# Altium integrated library Actel Axcelerator.IntLib: 162 symbols (part 32 of 43)
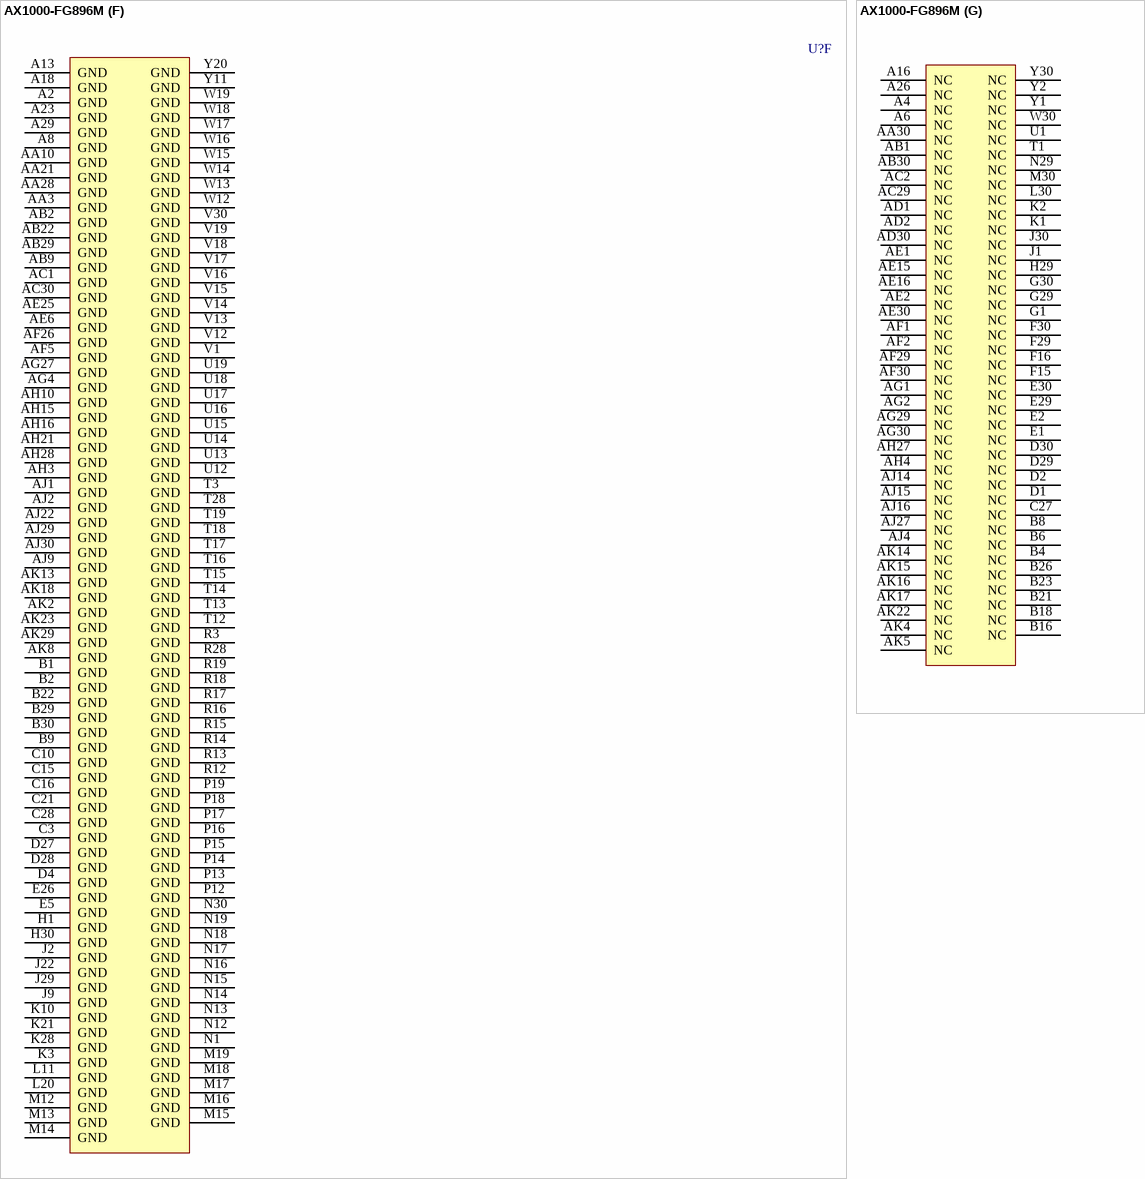
[diagram p430: symbol AX1000-FG896M]

## AX1000-FG896M
designator U?
Axcelerator AX1000 FPGA, 516 User I/Os, 896-Pin FBGA, Standard Speed Grade, Military Grade; Published: 11-Dec-2009; DatasheetVersion: v2.8, Oct-2009; PackageVersion: ver11.2, Nov-2009; PackageReference: FG896; Publisher: Altium Limited; PackageDescription: 896-Ball Fine Pitch Plastic Ball Grid Array (FG896); Code_JEDEC: MS-034-AAN-1; ComponentLink1Description: Axcelerator Datasheet; ComponentLink1URL: http://www.actel.com/documents/AX_DS.pdf; ComponentLink2Description: Package Mechanical Drawings; ComponentLink2URL: http://www.actel.com/documents/PckgMechDrwngs.pdf; ComponentLink3Description: Axcelerator Documents; ComponentLink3URL: http://www.actel.com/products/axcelerator/docs.aspx; ComponentLink4Description: Actel.com Home; ComponentLink4URL: http://www.actel.com/
footprint FG896 (BGA, 896-Leads, Body 31x31mm, Pitch 1mm)
part A pins: A5 IO01NB0F0 (io), A7 IO09NB0F0 (io), A9 IO15PB0F1 (io), A10 IO15NB0F1 (io), A11 IO23PB0F2 (io), A12 IO23NB0F2 (io), A14 IO27PB0F2 (io), A15 IO29PB0F2 (io), A17 IO34NB1F3 (io), A19 IO37PB1F3 (io), A20 IO39PB1F3 (io), A21 IO43PB1F4 (io), A22 IO43NB1F4 (io), A24 IO47PB1F4 (io), A25 IO47NB1F4 (io), A27 IO61PB1F5 (io), B5 IO01PB0F0 (io), B7 IO09PB0F0 (io), B10 IO17PB0F1 (io), B11 IO17NB0F1 (io), B12 IO25PB0F2 (io), B13 IO25NB0F2 (io), B14 IO27NB0F2 (io), B15 IO29NB0F2 (io), B17 IO34PB1F3 (io), B19 IO37NB1F3 (io), B20 IO39NB1F3 (io), B24 IO53PB1F4 (io), B25 IO53NB1F4 (io), B27 IO61NB1F5 (io), C6 IO05PB0F0 (io), C7 IO05NB0F0 (io), C8 IO11PB0F0 (io), C9 IO11NB0F0 (io), C11 IO19PB0F1 (io), C12 IO19NB0F1 (io), C14 IO30NB0F2/HCLKAN (io), C17 IO33NB1F3/HCLKDN (io), C18 IO35PB1F3 (io), C19 IO40PB1F3 (io), C20 IO40NB1F3 (io), C22 IO46PB1F4 (io), C23 IO49PB1F4 (io), C24 IO49NB1F4 (io), C25 IO57PB1F5 (io), C26 IO59PB1F5 (io), D6 IO00NB0F0 (io), D7 IO04NB0F0 (io), D8 IO07NB0F0 (io), D9 IO13PB0F1 (io), D10 IO13NB0F1 (io), D11 IO18NB0F1 (io), D12 IO21NB0F1 (io), D14 IO30PB0F2/HCLKAP (io), D15 IO31PB0F2/HCLKBP (io), D17 IO33PB1F3/HCLKDP (io), D18 IO35NB1F3 (io), D20 IO45PB1F4 (io), D21 IO45NB1F4 (io), D22 IO46NB1F4 (io), D23 IO54PB1F5 (io), D24 IO54NB1F5 (io), D25 IO57NB1F5 (io), D26 IO59NB1F5 (io), E6 IO00PB0F0 (io), E7 IO04PB0F0 (io), E8 IO07PB0F0 (io), E9 IO08NB0F0 (io), E10 IO12NB0F1 (io), E11 IO18PB0F1 (io), E12 IO21PB0F1 (io), E13 IO26PB0F2 (io), E14 IO26NB0F2 (io), E15 IO31NB0F2/HCLKBN (io), E16 IO32PB1F3/HCLKCP (io), E17 IO32NB1F3/HCLKCN (io), E19 IO41PB1F4 (io), E20 IO41NB1F4 (io), E21 IO51PB1F4 (io), E22 IO52PB1F4 (io), E23 IO55PB1F5 (io), E24 IO58PB1F5 (io), E25 IO62PB1F5 (io), F7 IO03PB0F0 (io), F8 IO03NB0F0 (io), F9 IO08PB0F0 (io), F10 IO12PB0F1 (io), F11 IO14NB0F1 (io), F12 IO20NB0F1 (io), F13 IO24NB0F2 (io), F18 IO42NB1F4 (io), F19 IO44PB1F4 (io), F20 IO44NB1F4 (io), F21 IO51NB1F4 (io), F22 IO52NB1F4 (io), F23 IO55NB1F5 (io), F24 IO58NB1F5 (io), F25 IO62NB1F5 (io), G8 IO02PB0F0 (io), G9 IO02NB0F0 (io), G10 IO10PB0F0 (io), G11 IO14PB0F1 (io), G12 IO20PB0F1 (io), G13 IO24PB0F2 (io), G18 IO42PB1F4 (io), G19 IO48PB1F4 (io), G20 IO50NB1F4 (io), G21 IO56PB1F5 (io), G22 IO60PB1F5 (io), G23 IO60NB1F5 (io), H8 IO06PB0F0 (io), H9 IO06NB0F0 (io), H10 IO10NB0F0 (io), H11 IO16PB0F1 (io), H12 IO16NB0F1 (io), H13 IO22NB0F2 (io), H14 IO28NB0F2 (io), H17 IO36NB1F3 (io), H18 IO38NB1F3 (io), H19 IO48NB1F4 (io), H20 IO50PB1F4 (io), H21 IO56NB1F5 (io), H22 IO63PB1F5 (io), H23 IO63NB1F5 (io), J13 IO22PB0F2 (io), J14 IO28PB0F2 (io), J17 IO36PB1F3 (io), J18 IO38PB1F3 (io)
part B pins: AA23 IO124PB3F11 (io), AA24 IO120NB3F11 (io), AA25 IO121PB3F11 (io), AA26 IO115NB3F10 (io), AA27 IO113PB3F10 (io), AA29 IO111NB3F10 (io), AB23 IO124NB3F11 (io), AB24 IO128PB3F11 (io), AB25 IO121NB3F11 (io), AB26 IO122PB3F11 (io), AB27 IO113NB3F10 (io), AB28 IO116PB3F10 (io), AC24 IO128NB3F11 (io), AC25 IO126PB3F11 (io), AC26 IO122NB3F11 (io), AC27 IO119PB3F11 (io), AC28 IO116NB3F10 (io), AD25 IO126NB3F11 (io), AD26 IO127PB3F11 (io), AD27 IO119NB3F11 (io), AD28 IO118PB3F11 (io), AD29 IO117PB3F10 (io), AE26 IO127NB3F11 (io), AE27 IO125PB3F11 (io), AE28 IO118NB3F11 (io), AE29 IO117NB3F10 (io), AF27 IO125NB3F11 (io), AF28 IO123PB3F11 (io), AG28 IO123NB3F11 (io), E27 IO69PB2F6 (io), F27 IO69NB2F6 (io), F28 IO73PB2F6 (io), G25 IO67PB2F6 (io), G26 IO67NB2F6 (io), G27 IO71PB2F6 (io), G28 IO73NB2F6 (io), H24 IO65PB2F6 (io), H25 IO66PB2F6 (io), H26 IO66NB2F6 (io), H27 IO71NB2F6 (io), H28 IO72PB2F6 (io), J23 IO64PB2F6 (io), J24 IO65NB2F6 (io), J25 IO70PB2F6 (io), J26 IO70NB2F6 (io), J27 IO77PB2F7 (io), J28 IO72NB2F6 (io), K23 IO64NB2F6 (io), K24 IO68PB2F6 (io), K25 IO68NB2F6 (io), K26 IO75PB2F7 (io), K27 IO77NB2F7 (io), K29 IO79PB2F7 (io), K30 IO79NB2F7 (io), L23 IO74NB2F7 (io), L24 IO74PB2F7 (io), L25 IO76PB2F7 (io), L26 IO75NB2F7 (io), L27 IO78PB2F7 (io), L28 IO81PB2F7 (io), L29 IO85PB2F8 (io), M23 IO80NB2F7 (io), M24 IO80PB2F7 (io), M25 IO76NB2F7 (io), M26 IO82PB2F7 (io), M27 IO78NB2F7 (io), M28 IO81NB2F7 (io), M29 IO85NB2F8 (io), N22 IO84NB2F7 (io), N23 IO84PB2F7 (io), N24 IO83PB2F7 (io), N25 IO83NB2F7 (io), N26 IO82NB2F7 (io), N27 IO86PB2F8 (io), N28 IO86NB2F8 (io), P22 IO90NB2F8 (io), P23 IO90PB2F8 (io), P24 IO88PB2F8 (io), P25 IO88NB2F8 (io), P26 IO91PB2F8 (io), P27 IO89PB2F8 (io), P28 IO89NB2F8 (io), P29 IO87NB2F8 (io), P30 IO87PB2F8 (io), R22 IO94NB2F8 (io), R23 IO94PB2F8 (io), R24 IO92NB2F8 (io), R25 IO92PB2F8 (io), R26 IO91NB2F8 (io), R27 IO95PB2F8 (io), R29 IO93NB2F8 (io), R30 IO93PB2F8 (io), T22 IO98NB3F9 (io), T23 IO98PB3F9 (io), T24 IO100PB3F9 (io), T26 IO99PB3F9 (io), T27 IO95NB2F8 (io), T29 IO96NB3F9 (io), T30 IO96PB3F9 (io), U22 IO102PB3F9 (io), U23 IO102NB3F9 (io), U24 IO100NB3F9 (io), U25 IO106PB3F9 (io), U26 IO99NB3F9 (io), U27 IO103PB3F9 (io), U28 IO101PB3F9 (io), U29 IO97NB3F9 (io), U30 IO97PB3F9 (io), V22 IO110PB3F10 (io), V23 IO110NB3F10 (io), V24 IO108PB3F10 (io), V25 IO106NB3F9 (io), V26 IO107PB3F10 (io), V27 IO103NB3F9 (io), V28 IO101NB3F9 (io), V29 IO104PB3F9 (io), W23 IO114PB3F10 (io), W24 IO108NB3F10 (io), W25 IO112PB3F10 (io), W26 IO107NB3F10 (io), W27 IO109PB3F10 (io), W28 IO105PB3F9 (io), W29 IO104NB3F9 (io), Y23 IO114NB3F10 (io), Y24 IO120PB3F11 (io), Y25 IO112NB3F10 (io), Y26 IO115PB3F10 (io), Y27 IO109NB3F10 (io), Y28 IO105NB3F9 (io), Y29 IO111PB3F10 (io)
part C pins: AB13 IO167NB5F15 (io), AB14 IO165NB5F15 (io), AB17 IO155PB4F14 (io), AB18 IO149PB4F13 (io), AC8 IO192NB5F17 (io), AC9 IO192PB5F17 (io), AC10 IO185NB5F17 (io), AC11 IO181NB5F17 (io), AC12 IO177NB5F16 (io), AC13 IO169PB5F15 (io), AC14 IO167PB5F15 (io), AC15 IO165PB5F15 (io), AC17 IO155NB4F14 (io), AC18 IO149NB4F13 (io), AC19 IO147NB4F13 (io), AC20 IO147PB4F13 (io), AC21 IO137PB4F12 (io), AC22 IO133PB4F12 (io), AC23 IO129PB4F12 (io), AD8 IO189NB5F17 (io), AD9 IO189PB5F17 (io), AD10 IO185PB5F17 (io), AD11 IO181PB5F17 (io), AD12 IO177PB5F16 (io), AD13 IO169NB5F15 (io), AD14 IO163PB5F15 (io), AD17 IO157PB4F14 (io), AD18 IO151PB4F13 (io), AD19 IO143NB4F13 (io), AD20 IO143PB4F13 (io), AD21 IO137NB4F12 (io), AD22 IO133NB4F12 (io), AD23 IO129NB4F12 (io), AE7 IO187NB5F17 (io), AE8 IO187PB5F17 (io), AE9 IO180NB5F16 (io), AE10 IO180PB5F16 (io), AE11 IO175NB5F16 (io), AE12 IO173NB5F16 (io), AE13 IO173PB5F16 (io), AE14 IO163NB5F15 (io), AE17 IO157NB4F14 (io), AE18 IO151NB4F13 (io), AE19 IO145NB4F13 (io), AE20 IO145PB4F13 (io), AE21 IO139NB4F13 (io), AE22 IO139PB4F13 (io), AE23 IO134NB4F12 (io), AE24 IO134PB4F12 (io), AF6 IO188NB5F17 (io), AF7 IO188PB5F17 (io), AF8 IO183NB5F17 (io), AF9 IO179NB5F16 (io), AF10 IO179PB5F16 (io), AF11 IO175PB5F16 (io), AF20 IO146NB4F13 (io), AF21 IO146PB4F13 (io), AF22 IO141NB4F13 (io), AF23 IO141PB4F13 (io), AF24 IO131NB4F12 (io), AF25 IO131PB4F12 (io), AG5 IO191NB5F17 (io), AG6 IO190PB5F17 (io), AG7 IO184NB5F17 (io), AG8 IO183PB5F17 (io), AG9 IO174NB5F16 (io), AG10 IO174PB5F16 (io), AG11 IO171NB5F16 (io), AG12 IO171PB5F16 (io), AG13 IO162NB5F15/CLKHN (io), AG14 IO161NB5F15/CLKGN (io), AG15 IO161PB5F15/CLKGP (io), AG16 IO160NB4F14/CLKFN (io), AG17 IO160PB4F14/CLKFP (io), AG18 IO159NB4F14/CLKEN (io), AG19 IO153NB4F14 (io), AG20 IO153PB4F14 (io), AG21 IO144NB4F13 (io), AG22 IO144PB4F13 (io), AG23 IO140NB4F13 (io), AG24 IO140PB4F13 (io), AG25 IO132NB4F12 (io), AG26 IO132PB4F12 (io), AH5 IO191PB5F17 (io), AH6 IO190NB5F17 (io), AH7 IO184PB5F17 (io), AH8 IO176NB5F16 (io), AH9 IO176PB5F16 (io), AH11 IO168NB5F15 (io), AH12 IO168PB5F15 (io), AH13 IO162PB5F15/CLKHP (io), AH18 IO159PB4F14/CLKEP (io), AH19 IO154NB4F14 (io), AH20 IO154PB4F14 (io), AH22 IO148NB4F13 (io), AH23 IO148PB4F13 (io), AH24 IO135NB4F12 (io), AH25 IO135PB4F12 (io), AJ5 IO186NB5F17 (io), AJ6 IO186PB5F17 (io), AJ7 IO178NB5F16 (io), AJ8 IO178PB5F16 (io), AJ10 IO170NB5F15 (io), AJ11 IO170PB5F15 (io), AJ12 IO164NB5F15 (io), AJ13 IO164PB5F15 (io), AJ17 IO158NB4F14 (io), AJ18 IO158PB4F14 (io), AJ19 IO156PB4F14 (io), AJ20 IO152NB4F14 (io), AJ21 IO150PB4F13 (io), AJ23 IO142NB4F13 (io), AJ24 IO142PB4F13 (io), AJ25 IO136NB4F12 (io), AJ26 IO136PB4F12 (io), AK6 IO182NB5F17 (io), AK7 IO182PB5F17 (io), AK9 IO172NB5F16 (io), AK10 IO172PB5F16 (io), AK11 IO166NB5F15 (io), AK12 IO166PB5F15 (io), AK19 IO156NB4F14 (io), AK20 IO152PB4F14 (io), AK21 IO150NB4F13 (io), AK24 IO138NB4F12 (io), AK25 IO138PB4F12 (io), AK26 IO130NB4F12 (io), AK27 IO130PB4F12 (io)
part D pins: AA1 IO210PB6F19 (io), AA2 IO210NB6F19 (io), AA4 IO206NB6F19 (io), AA5 IO204PB6F19 (io), AA6 IO203PB6F19 (io), AA7 IO201PB6F18 (io), AA8 IO197NB6F18 (io), AB3 IO208NB6F19 (io), AB4 IO206PB6F19 (io), AB5 IO200NB6F18 (io), AB6 IO195NB6F18 (io), AB7 IO193NB6F18 (io), AB8 IO197PB6F18 (io), AC3 IO208PB6F19 (io), AC4 IO199NB6F18 (io), AC5 IO200PB6F18 (io), AC6 IO195PB6F18 (io), AC7 IO193PB6F18 (io), AD3 IO202NB6F18 (io), AD4 IO199PB6F18 (io), AD5 IO194NB6F18 (io), AE3 IO202PB6F18 (io), AE4 IO196NB6F18 (io), AE5 IO194PB6F18 (io), AF3 IO198NB6F18 (io), AF4 IO196PB6F18 (io), AG3 IO198PB6F18 (io), F1 IO252PB7F23 (io), F2 IO252NB7F23 (io), F3 IO254PB7F23 (io), F4 IO254NB7F23 (io), F5 IO256NB7F23 (io), G2 IO246NB7F22 (io), G3 IO248NB7F23 (io), G4 IO249NB7F23 (io), G5 IO256PB7F23 (io), G6 IO255NB7F23 (io), H2 IO246PB7F22 (io), H3 IO248PB7F23 (io), H4 IO249PB7F23 (io), H5 IO251NB7F23 (io), H6 IO255PB7F23 (io), H7 IO257NB7F23 (io), J3 IO245PB7F22 (io), J4 IO245NB7F22 (io), J5 IO251PB7F23 (io), J6 IO250NB7F23 (io), J7 IO257PB7F23 (io), K4 IO242NB7F22 (io), K5 IO244NB7F22 (io), K6 IO250PB7F23 (io), K7 IO253PB7F23 (io), K8 IO253NB7F23 (io), L1 IO234NB7F21 (io), L2 IO239NB7F22 (io), L3 IO240NB7F22 (io), L4 IO242PB7F22 (io), L5 IO244PB7F22 (io), L6 IO243NB7F22 (io), L7 IO247PB7F23 (io), L8 IO247NB7F23 (io), M1 IO234PB7F21 (io), M2 IO239PB7F22 (io), M3 IO240PB7F22 (io), M4 IO235NB7F21 (io), M5 IO238NB7F22 (io), M6 IO243PB7F22 (io), M7 IO241PB7F22 (io), M8 IO241NB7F22 (io), N2 IO230NB7F21 (io), N3 IO232NB7F21 (io), N4 IO235PB7F21 (io), N5 IO238PB7F22 (io), N6 IO236PB7F22 (io), N7 IO236NB7F22 (io), N8 IO237NB7F22 (io), N9 IO237PB7F22 (io), P1 IO228NB7F21 (io), P2 IO230PB7F21 (io), P3 IO232PB7F21 (io), P4 IO233NB7F21 (io), P5 IO233PB7F21 (io), P6 IO231PB7F21 (io), P7 IO231NB7F21 (io), P8 IO229PB7F21 (io), P9 IO229NB7F21 (io), R1 IO228PB7F21 (io), R2 IO224NB6F20 (io), R4 IO226NB7F21 (io), R5 IO226PB7F21 (io), R6 IO225PB7F21 (io), R7 IO225NB7F21 (io), R8 IO227NB7F21 (io), R9 IO227PB7F21 (io), T2 IO224PB6F20 (io), T5 IO219NB6F20 (io), T6 IO223PB6F20 (io), T7 IO223NB6F20 (io), T8 IO221NB6F20 (io), T9 IO221PB6F20 (io), U2 IO222NB6F20 (io), U3 IO220NB6F20 (io), U4 IO218NB6F20 (io), U5 IO219PB6F20 (io), U6 IO217PB6F20 (io), U7 IO217NB6F20 (io), U8 IO215NB6F20 (io), U9 IO215PB6F20 (io), V2 IO222PB6F20 (io), V3 IO220PB6F20 (io), V4 IO218PB6F20 (io), V5 IO211NB6F19 (io), V6 IO213PB6F19 (io), V7 IO213NB6F19 (io), V8 IO209NB6F19 (io), V9 IO209PB6F19 (io), W1 IO216NB6F20 (io), W2 IO216PB6F20 (io), W3 IO214NB6F20 (io), W4 IO214PB6F20 (io), W5 IO211PB6F19 (io), W6 IO207NB6F19 (io), W7 IO207PB6F19 (io), W8 IO205NB6F19 (io), Y3 IO212NB6F19 (io), Y4 IO212PB6F19 (io), Y5 IO204NB6F19 (io), Y6 IO203NB6F19 (io), Y7 IO201NB6F18 (io), Y8 IO205PB6F19 (io)
part E pins: A3 VCCIB0 (power), A28 VCCIB1 (power), AA9 VCCIB6 (power), AA11 VCCIB5 (power), AA12 VCCIB5 (power), AA13 VCCIB5 (power), AA14 VCCIB5 (power), AA15 VCCIB5 (power), AA16 VCCIB4 (power), AA17 VCCIB4 (power), AA18 VCCIB4 (power), AA19 VCCIB4 (power), AA20 VCCIB4 (power), AA22 VCCIB3 (power), AB10 VCCIB5 (power), AB11 VCCIB5 (power), AB12 VCCIB5 (power), AB15 VCOMPLH (power), AB16 PRC (out), AB19 VCCIB4 (power), AB20 VCCIB4 (power), AB21 VCCIB4 (power), AC16 VCCPLF (power), AD6 VCCA (power), AD7 VCCDA (power), AD15 VCCPLH (power), AD16 VCOMPLF (power), AD24 VCCDA (power), AF12 VCCDA (power), AF13 VCCDA (power), AF14 VCOMPLG (power), AF15 VCCDA (power), AF16 PRD (out), AF17 VCOMPLE (power), AF18 VCCDA (power), AF19 VCCDA (power), AH1 VCCIB6 (power), AH2 VCCIB6 (power), AH14 VCCPLG (power), AH17 VCCPLE (power), AH26 VCCA (power), AH29 VCCIB3 (power), AH30 VCCIB3 (power), AJ3 VCCIB5 (power), AJ28 VCCIB4 (power), AK3 VCCIB5 (power), AK28 VCCIB4 (power), B3 VCCIB0 (power), B28 VCCIB1 (power), C1 VCCIB7 (power), C2 VCCIB7 (power), C4 ~{TRST} (in), C5 VCCDA (power), C13 VCCDA (power), C29 VCCIB2 (power), C30 VCCIB2 (power), D3 VCCDA (power), D5 TDI (in), D13 VCCDA (power), D16 PRB (out), D19 VCCDA (power), E3 VCCA (power), E4 LP (in), E18 VCCDA (power), E28 VCCA (power), F6 TMS (in), F14 VCOMPLA (power), F17 VCOMPLC (power), F26 VCCDA (power), G7 TCK (in), G14 VCCPLA (power), G15 PRA (out), G16 VCCDA (power), G17 VCCPLC (power), G24 VPUMP (power), H15 VCCPLB (power), H16 VCOMPLD (power), J8 TDO (hiz), J10 VCCIB0 (power), J11 VCCIB0 (power), J12 VCCIB0 (power), J15 VCOMPLB (power), J16 VCCPLD (power), J19 VCCIB1 (power), J20 VCCIB1 (power), J21 VCCIB1 (power), K9 VCCIB7 (power), K11 VCCIB0 (power), K12 VCCIB0 (power), K13 VCCIB0 (power), K14 VCCIB0 (power), K15 VCCIB0 (power), K16 VCCIB1 (power), K17 VCCIB1 (power), K18 VCCIB1 (power), K19 VCCIB1 (power), K20 VCCIB1 (power), K22 VCCIB2 (power), L9 VCCIB7 (power), L10 VCCIB7 (power), L12 VCCA (power), L13 VCCA (power), L14 VCCA (power), L15 VCCA (power), L16 VCCA (power), L17 VCCA (power), L18 VCCA (power), L19 VCCA (power), L21 VCCIB2 (power), L22 VCCIB2 (power), M9 VCCIB7 (power), M10 VCCIB7 (power), M11 VCCA (power), M20 VCCA (power), M21 VCCIB2 (power), M22 VCCIB2 (power), N10 VCCIB7 (power), N11 VCCA (power), N20 VCCA (power), N21 VCCIB2 (power), P10 VCCIB7 (power), P11 VCCA (power), P20 VCCA (power), P21 VCCIB2 (power), R10 VCCIB7 (power), R11 VCCA (power), R20 VCCA (power), R21 VCCIB2 (power), T4 VCCDA (power), T10 VCCIB6 (power), T11 VCCA (power), T20 VCCA (power), T21 VCCIB3 (power), T25 VCCDA (power), U10 VCCIB6 (power), U11 VCCA (power), U20 VCCA (power), U21 VCCIB3 (power), V10 VCCIB6 (power), V11 VCCA (power), V20 VCCA (power), V21 VCCIB3 (power), W9 VCCIB6 (power), W10 VCCIB6 (power), W11 VCCA (power), W20 VCCA (power), W21 VCCIB3 (power), W22 VCCIB3 (power), Y9 VCCIB6 (power), Y10 VCCIB6 (power), Y12 VCCA (power), Y13 VCCA (power), Y14 VCCA (power), Y15 VCCA (power), Y16 VCCA (power), Y17 VCCA (power), Y18 VCCA (power), Y19 VCCA (power), Y21 VCCIB3 (power), Y22 VCCIB3 (power)
part F pins: A2 GND (power), A8 GND (power), A13 GND (power), A18 GND (power), A23 GND (power), A29 GND (power), AA3 GND (power), AA10 GND (power), AA21 GND (power), AA28 GND (power), AB2 GND (power), AB9 GND (power), AB22 GND (power), AB29 GND (power), AC1 GND (power), AC30 GND (power), AE6 GND (power), AE25 GND (power), AF5 GND (power), AF26 GND (power), AG4 GND (power), AG27 GND (power), AH3 GND (power), AH10 GND (power), AH15 GND (power), AH16 GND (power), AH21 GND (power), AH28 GND (power), AJ1 GND (power), AJ2 GND (power), AJ9 GND (power), AJ22 GND (power), AJ29 GND (power), AJ30 GND (power), AK2 GND (power), AK8 GND (power), AK13 GND (power), AK18 GND (power), AK23 GND (power), AK29 GND (power), B1 GND (power), B2 GND (power), B9 GND (power), B22 GND (power), B29 GND (power), B30 GND (power), C3 GND (power), C10 GND (power), C15 GND (power), C16 GND (power), C21 GND (power), C28 GND (power), D4 GND (power), D27 GND (power), D28 GND (power), E5 GND (power), E26 GND (power), H1 GND (power), H30 GND (power), J2 GND (power), J9 GND (power), J22 GND (power), J29 GND (power), K3 GND (power), K10 GND (power), K21 GND (power), K28 GND (power), L11 GND (power), L20 GND (power), M12 GND (power), M13 GND (power), M14 GND (power), M15 GND (power), M16 GND (power), M17 GND (power), M18 GND (power), M19 GND (power), N1 GND (power), N12 GND (power), N13 GND (power), N14 GND (power), N15 GND (power), N16 GND (power), N17 GND (power), N18 GND (power), N19 GND (power), N30 GND (power), P12 GND (power), P13 GND (power), P14 GND (power), P15 GND (power), P16 GND (power), P17 GND (power), P18 GND (power), P19 GND (power), R3 GND (power), R12 GND (power), R13 GND (power), R14 GND (power), R15 GND (power), R16 GND (power), R17 GND (power), R18 GND (power), R19 GND (power), R28 GND (power), T3 GND (power), T12 GND (power), T13 GND (power), T14 GND (power), T15 GND (power), T16 GND (power), T17 GND (power), T18 GND (power), T19 GND (power), T28 GND (power), U12 GND (power), U13 GND (power), U14 GND (power), U15 GND (power), U16 GND (power), U17 GND (power), U18 GND (power), U19 GND (power), V1 GND (power), V12 GND (power), V13 GND (power), V14 GND (power), V15 GND (power), V16 GND (power), V17 GND (power), V18 GND (power), V19 GND (power), V30 GND (power), W12 GND (power), W13 GND (power), W14 GND (power), W15 GND (power), W16 GND (power), W17 GND (power), W18 GND (power), W19 GND (power), Y11 GND (power), Y20 GND (power)
part G pins: A4 NC, A6 NC, A16 NC, A26 NC, AA30 NC, AB1 NC, AB30 NC, AC2 NC, AC29 NC, AD1 NC, AD2 NC, AD30 NC, AE1 NC, AE2 NC, AE15 NC, AE16 NC, AE30 NC, AF1 NC, AF2 NC, AF29 NC, AF30 NC, AG1 NC, AG2 NC, AG29 NC, AG30 NC, AH4 NC, AH27 NC, AJ4 NC, AJ14 NC, AJ15 NC, AJ16 NC, AJ27 NC, AK4 NC, AK5 NC, AK14 NC, AK15 NC, AK16 NC, AK17 NC, AK22 NC, B4 NC, B6 NC, B8 NC, B16 NC, B18 NC, B21 NC, B23 NC, B26 NC, C27 NC, D1 NC, D2 NC, D29 NC, D30 NC, E1 NC, E2 NC, E29 NC, E30 NC, F15 NC, F16 NC, F29 NC, F30 NC, G1 NC, G29 NC, G30 NC, H29 NC, J1 NC, J30 NC, K1 NC, K2 NC, L30 NC, M30 NC, N29 NC, T1 NC, U1 NC, W30 NC, Y1 NC, Y2 NC, Y30 NC
part A text: Bank 1; Bank 0
part B text: Bank 3; Bank 2
part C text: Bank 5; Bank 4
part D text: Bank 7; Bank 6

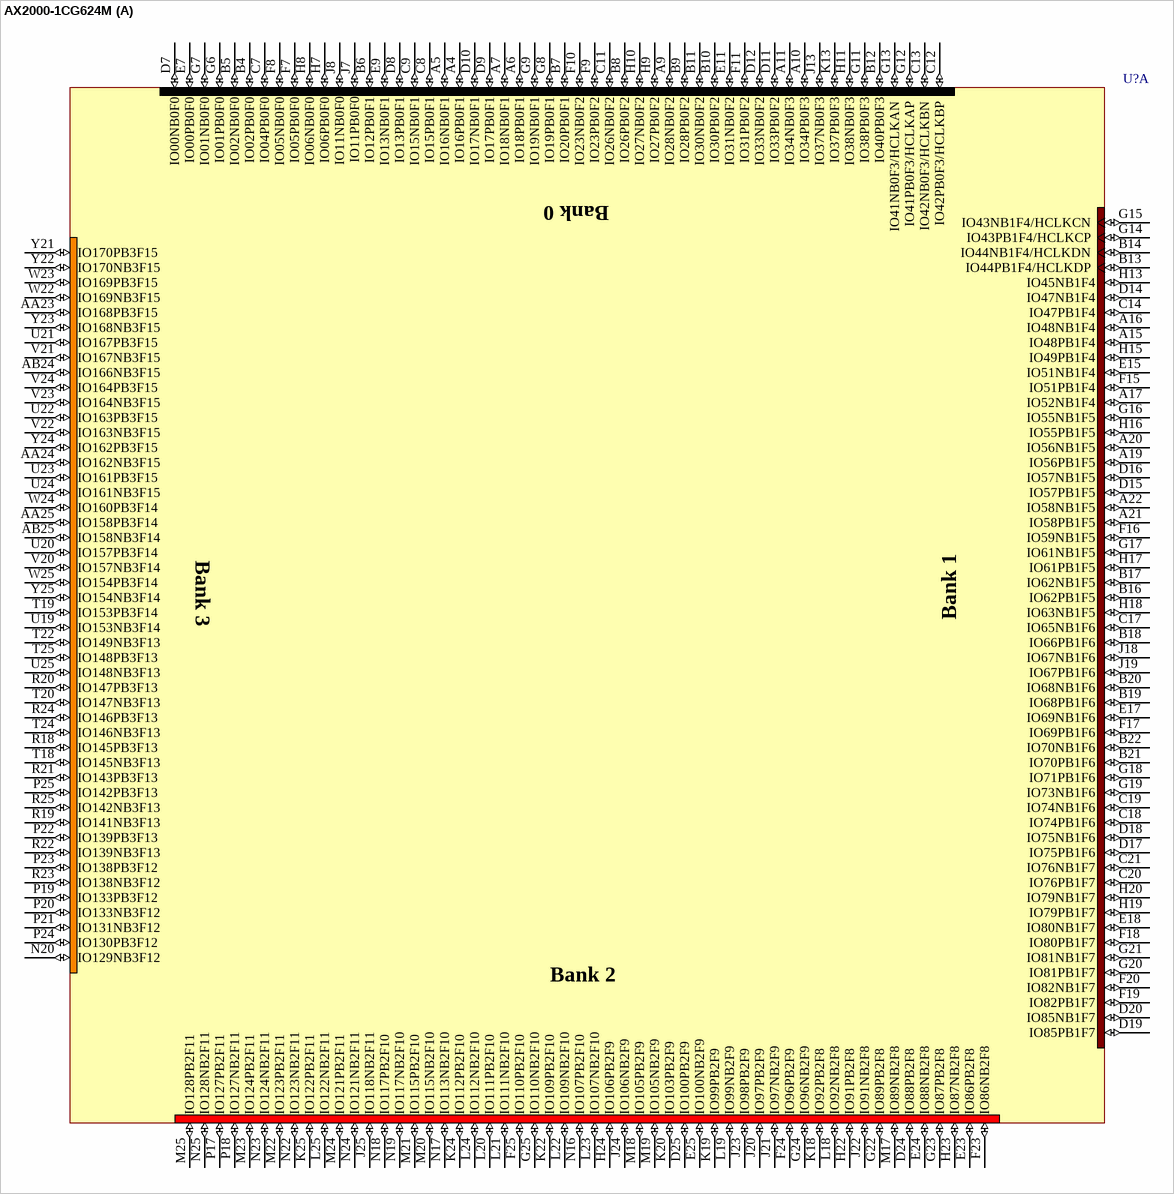
[diagram p361: symbol AX2000-1CG624M]

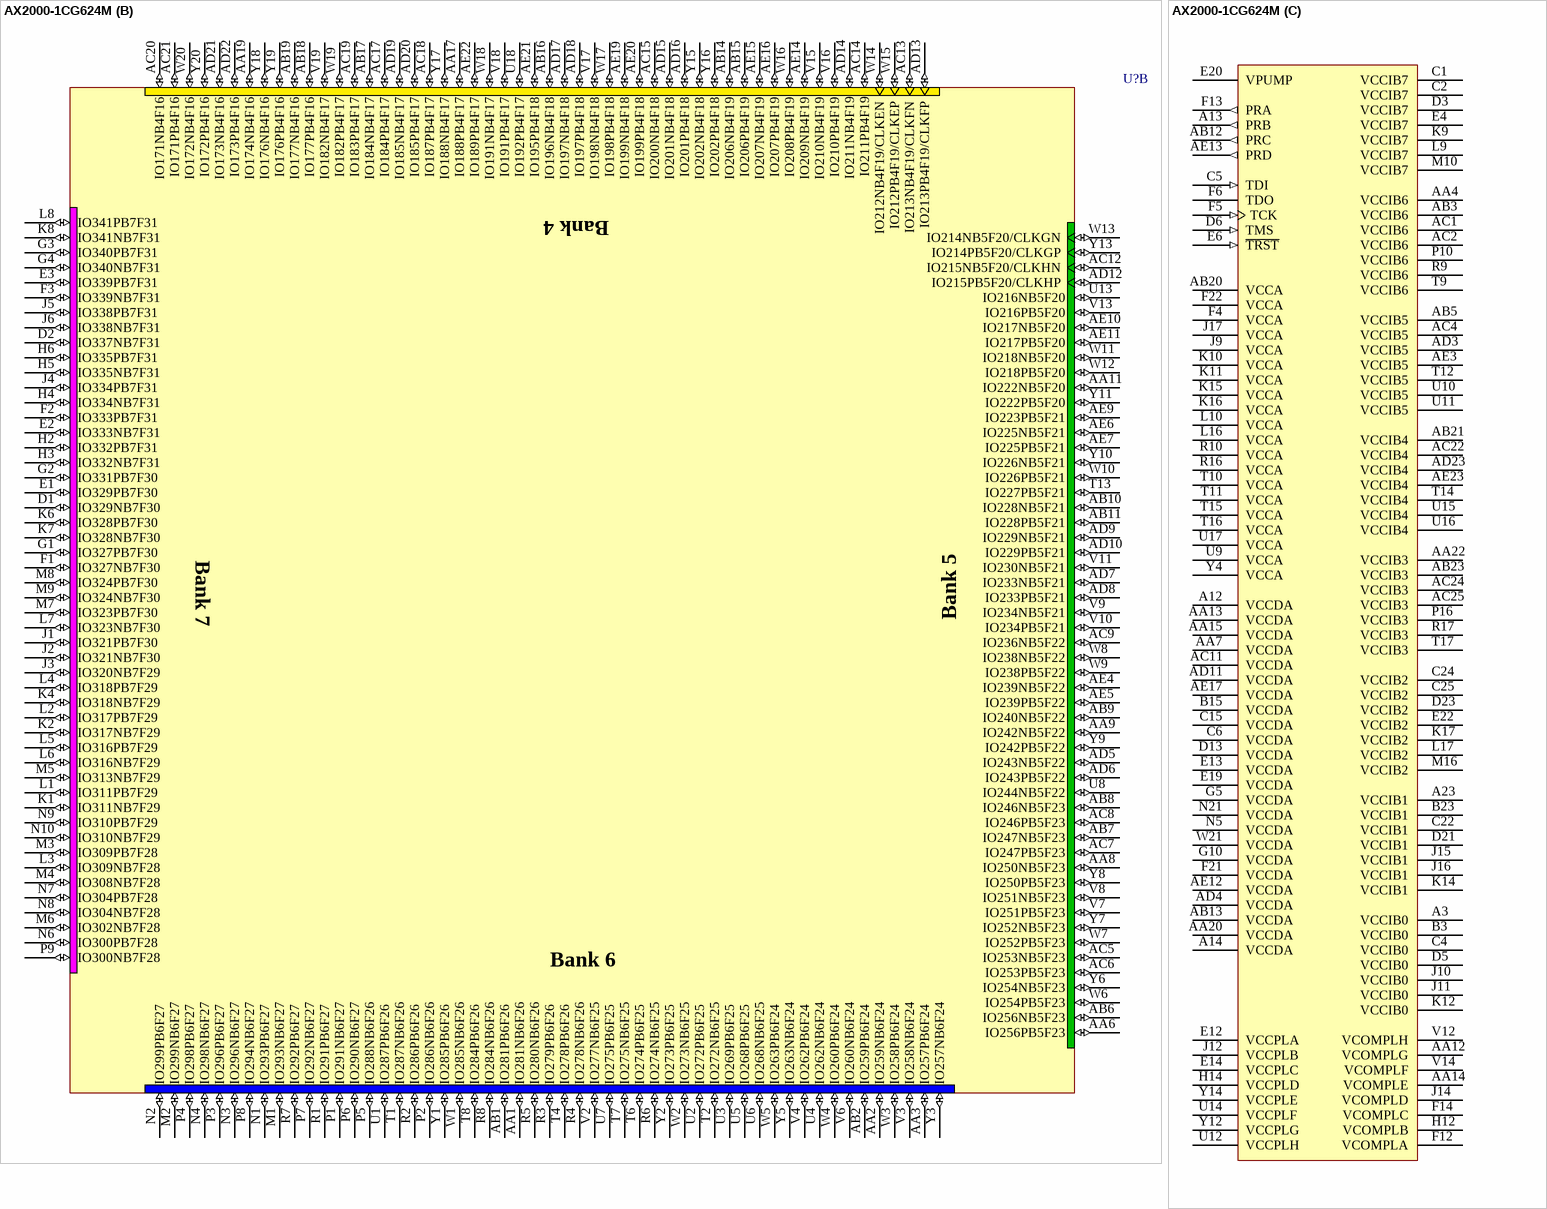
[diagram p362: symbol AX2000-1CG624M]

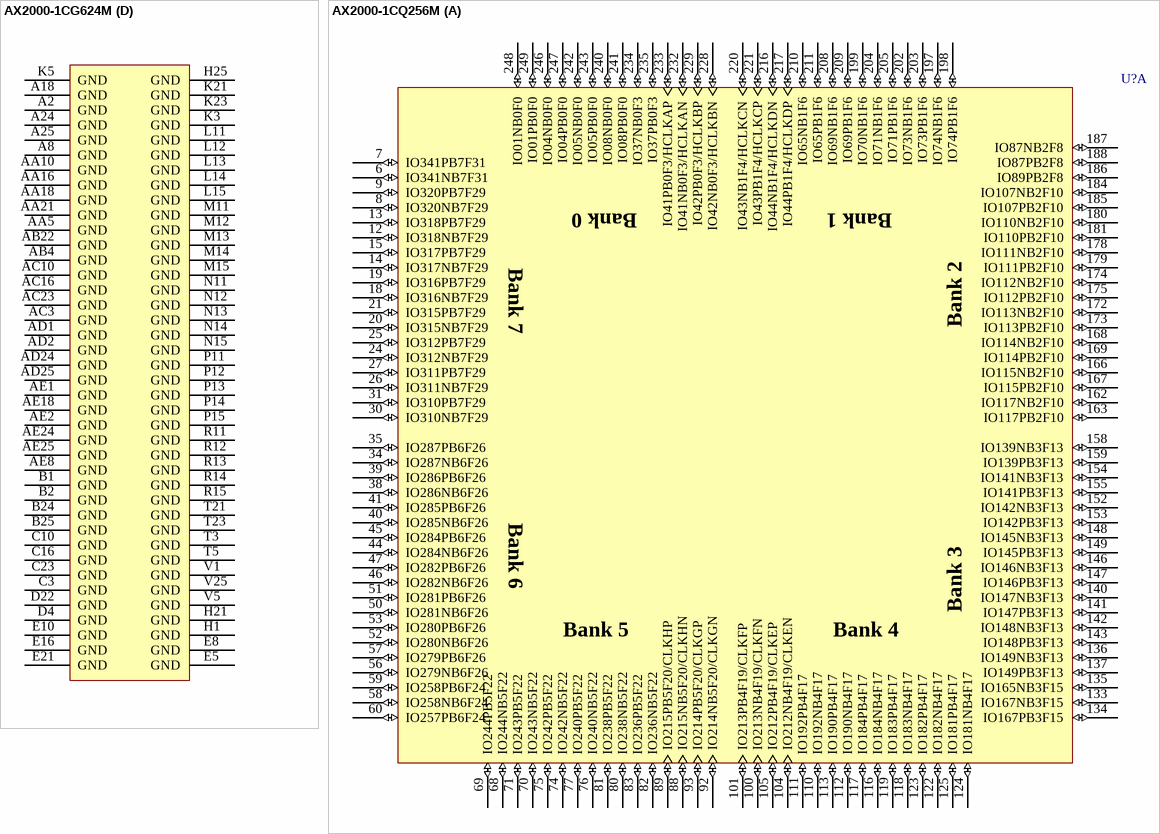
[diagram p363: symbols AX2000-1CG624M to AX2000-1CQ256M]

## AX2000-1CG624M
designator U?
Axcelerator AX2000 FPGA, 418 User I/Os, 624-Pin CCGA, Speed Grade 1, Military Grade; Published: 11-Dec-2009; DatasheetVersion: v2.8, Oct-2009; PackageVersion: ver11.2, Nov-2009; PackageReference: CG624; Publisher: Altium Limited; PackageDescription: 624-Pin Ceramic Column Grid Array 1.27 mm Pitch; Code_JEDEC: MO-158-BE-01; ComponentLink1Description: Axcelerator Datasheet; ComponentLink1URL: http://www.actel.com/documents/AX_DS.pdf; ComponentLink2Description: Package Mechanical Drawings; ComponentLink2URL: http://www.actel.com/documents/PckgMechDrwngs.pdf; ComponentLink3Description: Axcelerator Documents; ComponentLink3URL: http://www.actel.com/products/axcelerator/docs.aspx; ComponentLink4Description: Actel.com Home; ComponentLink4URL: http://www.actel.com/
footprint CG624 (CGA, 624-Leads, Body 32.5x32.5mm, Pitch 1.27mm)
part A pins: A4 IO16PB0F1 (io), A5 IO16NB0F1 (io), A6 IO18PB0F1 (io), A7 IO18NB0F1 (io), A9 IO28NB0F2 (io), A10 IO34PB0F3 (io), A11 IO34NB0F3 (io), A15 IO48PB1F4 (io), A16 IO48NB1F4 (io), A17 IO52NB1F4 (io), A19 IO56PB1F5 (io), A20 IO56NB1F5 (io), A21 IO58PB1F5 (io), A22 IO58NB1F5 (io), AA23 IO168PB3F15 (io), AA24 IO162NB3F15 (io), AA25 IO158PB3F14 (io), AB24 IO166NB3F15 (io), AB25 IO158NB3F14 (io), B4 IO02PB0F0 (io), B5 IO02NB0F0 (io), B6 IO12PB0F1 (io), B7 IO20PB0F1 (io), B8 IO26PB0F2 (io), B9 IO28PB0F2 (io), B10 IO30PB0F2 (io), B11 IO30NB0F2 (io), B12 IO40PB0F3 (io), B13 IO44PB1F4/HCLKDP (io), B14 IO44NB1F4/HCLKDN (io), B16 IO62PB1F5 (io), B17 IO62NB1F5 (io), B18 IO66PB1F6 (io), B19 IO68PB1F6 (io), B20 IO68NB1F6 (io), B21 IO70PB1F6 (io), B22 IO70NB1F6 (io), C7 IO04PB0F0 (io), C8 IO15PB0F1 (io), C9 IO15NB0F1 (io), C11 IO26NB0F2 (io), C12 IO42PB0F3/HCLKBP (io), C13 IO42NB0F3/HCLKBN (io), C14 IO47PB1F4 (io), C17 IO65NB1F6 (io), C18 IO74PB1F6 (io), C19 IO74NB1F6 (io), C20 IO76PB1F7 (io), C21 IO76NB1F7 (io), D7 IO00NB0F0 (io), D8 IO13PB0F1 (io), D9 IO17PB0F1 (io), D10 IO17NB0F1 (io), D11 IO33PB0F2 (io), D12 IO33NB0F2 (io), D14 IO47NB1F4 (io), D15 IO57PB1F5 (io), D16 IO57NB1F5 (io), D17 IO75PB1F6 (io), D18 IO75NB1F6 (io), D19 IO85PB1F7 (io), D20 IO85NB1F7 (io), D24 IO88PB2F8 (io), D25 IO100PB2F9 (io), E7 IO00PB0F0 (io), E9 IO13NB0F1 (io), E11 IO31NB0F2 (io), E15 IO51NB1F4 (io), E17 IO69NB1F6 (io), E18 IO80NB1F7 (io), E23 IO86PB2F8 (io), E24 IO88NB2F8 (io), E25 IO100NB2F9 (io), F7 IO05PB0F0 (io), F8 IO05NB0F0 (io), F9 IO23PB0F2 (io), F10 IO23NB0F2 (io), F11 IO31PB0F2 (io), F15 IO51PB1F4 (io), F16 IO59NB1F5 (io), F17 IO69PB1F6 (io), F18 IO80PB1F7 (io), F19 IO82PB1F7 (io), F20 IO82NB1F7 (io), F23 IO86NB2F8 (io), F24 IO96PB2F9 (io), F25 IO110PB2F10 (io), G6 IO01PB0F0 (io), G7 IO01NB0F0 (io), G8 IO19PB0F1 (io), G9 IO19NB0F1 (io), G11 IO38PB0F3 (io), G12 IO41PB0F3/HCLKAP (io), G13 IO41NB0F3/HCLKAN (io), G14 IO43PB1F4/HCLKCP (io), G15 IO43NB1F4/HCLKCN (io), G16 IO55NB1F5 (io), G17 IO61NB1F5 (io), G18 IO71PB1F6 (io), G19 IO73NB1F6 (io), G20 IO81PB1F7 (io), G21 IO81NB1F7 (io), G22 IO89PB2F8 (io), G23 IO87PB2F8 (io), G24 IO96NB2F9 (io), G25 IO110NB2F10 (io), H7 IO06PB0F0 (io), H8 IO06NB0F0 (io), H9 IO27PB0F2 (io), H10 IO27NB0F2 (io), H11 IO38NB0F3 (io), H13 IO45NB1F4 (io), H15 IO49PB1F4 (io), H16 IO55PB1F5 (io), H17 IO61PB1F5 (io), H18 IO63NB1F5 (io), H19 IO79PB1F7 (io), H20 IO79NB1F7 (io), H22 IO91PB2F8 (io), H23 IO87NB2F8 (io), H24 IO106PB2F9 (io), J7 IO11PB0F0 (io), J8 IO11NB0F0 (io), J13 IO37NB0F3 (io), J18 IO67NB1F6 (io), J19 IO67PB1F6 (io), J20 IO97PB2F9 (io), J21 IO97NB2F9 (io), J22 IO91NB2F8 (io), J23 IO98PB2F9 (io), J24 IO106NB2F9 (io), J25 IO118NB2F11 (io), K13 IO37PB0F3 (io), K18 IO92PB2F8 (io), K19 IO99PB2F9 (io), K20 IO103PB2F9 (io), K22 IO109PB2F10 (io), K24 IO112PB2F10 (io), K25 IO122PB2F11 (io), L18 IO92NB2F8 (io), L19 IO99NB2F9 (io), L20 IO111PB2F10 (io), L21 IO111NB2F10 (io), L22 IO109NB2F10 (io), L23 IO107NB2F10 (io), L24 IO112NB2F10 (io), L25 IO122NB2F11 (io), M17 IO89NB2F8 (io), M18 IO105PB2F9 (io), M19 IO105NB2F9 (io), M20 IO115NB2F10 (io), M21 IO115PB2F10 (io), M22 IO123PB2F11 (io), M23 IO124PB2F11 (io), M24 IO121PB2F11 (io), M25 IO128PB2F11 (io), N16 IO107PB2F10 (io), N17 IO113NB2F10 (io), N18 IO117PB2F10 (io), N19 IO117NB2F10 (io), N20 IO129NB3F12 (io), N22 IO123NB2F11 (io), N23 IO124NB2F11 (io), N24 IO121NB2F11 (io), N25 IO128NB2F11 (io), P17 IO127PB2F11 (io), P18 IO127NB2F11 (io), P19 IO133PB3F12 (io), P20 IO133NB3F12 (io), P21 IO131NB3F12 (io), P22 IO139PB3F13 (io), P23 IO138PB3F12 (io), P24 IO130PB3F12 (io), P25 IO142PB3F13 (io), R18 IO145PB3F13 (io), R19 IO141NB3F13 (io), R20 IO147PB3F13 (io), R21 IO143PB3F13 (io), R22 IO139NB3F13 (io), R23 IO138NB3F12 (io), R24 IO146PB3F13 (io), R25 IO142NB3F13 (io), T18 IO145NB3F13 (io), T19 IO153PB3F14 (io), T20 IO147NB3F13 (io), T22 IO149NB3F13 (io), T24 IO146NB3F13 (io), T25 IO148PB3F13 (io), U19 IO153NB3F14 (io), U20 IO157PB3F14 (io), U21 IO167PB3F15 (io), U22 IO163PB3F15 (io), U23 IO161PB3F15 (io), U24 IO161NB3F15 (io), U25 IO148NB3F13 (io), V20 IO157NB3F14 (io), V21 IO167NB3F15 (io), V22 IO163NB3F15 (io), V23 IO164NB3F15 (io), V24 IO164PB3F15 (io), W22 IO169NB3F15 (io), W23 IO169PB3F15 (io), W24 IO160PB3F14 (io), W25 IO154PB3F14 (io), Y21 IO170PB3F15 (io), Y22 IO170NB3F15 (io), Y23 IO168NB3F15 (io), Y24 IO162PB3F15 (io), Y25 IO154NB3F14 (io)
part B pins: AA1 IO281NB6F26 (io), AA2 IO259NB6F24 (io), AA3 IO257PB6F24 (io), AA6 IO256PB5F23 (io), AA8 IO250NB5F23 (io), AA9 IO242NB5F22 (io), AA11 IO222NB5F20 (io), AA17 IO188PB4F17 (io), AA19 IO174NB4F16 (io), AB1 IO281PB6F26 (io), AB2 IO259PB6F24 (io), AB6 IO256NB5F23 (io), AB7 IO247NB5F23 (io), AB8 IO246NB5F23 (io), AB9 IO240NB5F22 (io), AB10 IO228NB5F21 (io), AB11 IO228PB5F21 (io), AB14 IO206NB4F19 (io), AB15 IO206PB4F19 (io), AB16 IO196NB4F18 (io), AB17 IO184NB4F17 (io), AB18 IO177PB4F16 (io), AB19 IO177NB4F16 (io), AC5 IO253NB5F23 (io), AC6 IO253PB5F23 (io), AC7 IO247PB5F23 (io), AC8 IO246PB5F23 (io), AC9 IO236NB5F22 (io), AC12 IO215NB5F20/CLKHN (io), AC13 IO213NB4F19/CLKFN (io), AC14 IO211PB4F19 (io), AC15 IO200NB4F18 (io), AC17 IO184PB4F17 (io), AC18 IO187PB4F17 (io), AC19 IO183PB4F17 (io), AC20 IO171NB4F16 (io), AC21 IO171PB4F16 (io), AD5 IO243NB5F22 (io), AD6 IO243PB5F22 (io), AD7 IO233NB5F21 (io), AD8 IO233PB5F21 (io), AD9 IO229NB5F21 (io), AD10 IO229PB5F21 (io), AD12 IO215PB5F20/CLKHP (io), AD13 IO213PB4F19/CLKFP (io), AD14 IO211NB4F19 (io), AD15 IO201NB4F18 (io), AD16 IO201PB4F18 (io), AD17 IO197NB4F18 (io), AD18 IO197PB4F18 (io), AD19 IO185NB4F17 (io), AD20 IO185PB4F17 (io), AD21 IO173NB4F16 (io), AD22 IO173PB4F16 (io), AE4 IO239NB5F22 (io), AE5 IO239PB5F22 (io), AE6 IO225NB5F21 (io), AE7 IO225PB5F21 (io), AE9 IO223PB5F21 (io), AE10 IO217NB5F20 (io), AE11 IO217PB5F20 (io), AE14 IO209NB4F19 (io), AE15 IO207NB4F19 (io), AE16 IO207PB4F19 (io), AE19 IO199NB4F18 (io), AE20 IO199PB4F18 (io), AE21 IO195PB4F18 (io), AE22 IO189PB4F17 (io), D1 IO329NB7F30 (io), D2 IO337NB7F31 (io), E1 IO329PB7F30 (io), E2 IO333NB7F31 (io), E3 IO339PB7F31 (io), F1 IO327NB7F30 (io), F2 IO333PB7F31 (io), F3 IO339NB7F31 (io), G1 IO327PB7F30 (io), G2 IO331PB7F30 (io), G3 IO340PB7F31 (io), G4 IO340NB7F31 (io), H2 IO332PB7F31 (io), H3 IO332NB7F31 (io), H4 IO334NB7F31 (io), H5 IO335NB7F31 (io), H6 IO335PB7F31 (io), J1 IO321PB7F30 (io), J2 IO321NB7F30 (io), J3 IO320NB7F29 (io), J4 IO334PB7F31 (io), J5 IO338PB7F31 (io), J6 IO338NB7F31 (io), K1 IO311NB7F29 (io), K2 IO317NB7F29 (io), K4 IO318NB7F29 (io), K6 IO328PB7F30 (io), K7 IO328NB7F30 (io), K8 IO341NB7F31 (io), L1 IO311PB7F29 (io), L2 IO317PB7F29 (io), L3 IO309NB7F28 (io), L4 IO318PB7F29 (io), L5 IO316PB7F29 (io), L6 IO316NB7F29 (io), L7 IO323NB7F30 (io), L8 IO341PB7F31 (io), M1 IO293NB6F27 (io), M2 IO299NB6F27 (io), M3 IO309PB7F28 (io), M4 IO308NB7F28 (io), M5 IO313NB7F29 (io), M6 IO302NB7F28 (io), M7 IO323PB7F30 (io), M8 IO324PB7F30 (io), M9 IO324NB7F30 (io), N1 IO293PB6F27 (io), N2 IO299PB6F27 (io), N3 IO296NB6F27 (io), N4 IO298NB6F27 (io), N6 IO300PB7F28 (io), N7 IO304PB7F28 (io), N8 IO304NB7F28 (io), N9 IO310PB7F29 (io), N10 IO310NB7F29 (io), P1 IO291NB6F27 (io), P2 IO286NB6F26 (io), P3 IO296PB6F27 (io), P4 IO298PB6F27 (io), P5 IO288NB6F26 (io), P6 IO290NB6F27 (io), P7 IO292NB6F27 (io), P8 IO294NB6F27 (io), P9 IO300NB7F28 (io), R1 IO291PB6F27 (io), R2 IO286PB6F26 (io), R3 IO279PB6F26 (io), R4 IO278NB6F26 (io), R5 IO280NB6F26 (io), R6 IO274NB6F25 (io), R7 IO292PB6F27 (io), R8 IO284NB6F26 (io), T1 IO287NB6F26 (io), T2 IO272NB6F25 (io), T4 IO278PB6F26 (io), T6 IO274PB6F25 (io), T7 IO275NB6F25 (io), T8 IO284PB6F26 (io), T13 IO227PB5F21 (io), U1 IO287PB6F26 (io), U2 IO272PB6F25 (io), U3 IO269PB6F25 (io), U4 IO262NB6F24 (io), U5 IO268PB6F25 (io), U6 IO268NB6F25 (io), U7 IO275PB6F25 (io), U8 IO244NB5F22 (io), U13 IO216NB5F20 (io), U18 IO192PB4F17 (io), V2 IO277NB6F25 (io), V3 IO258NB6F24 (io), V4 IO262PB6F24 (io), V6 IO260NB6F24 (io), V7 IO251PB5F23 (io), V8 IO251NB5F23 (io), V9 IO234NB5F21 (io), V10 IO234PB5F21 (io), V11 IO230NB5F21 (io), V13 IO216PB5F20 (io), V15 IO210NB4F19 (io), V16 IO210PB4F19 (io), V17 IO198NB4F18 (io), V18 IO191PB4F17 (io), V19 IO182NB4F17 (io), W1 IO285NB6F26 (io), W2 IO273NB6F25 (io), W3 IO258PB6F24 (io), W4 IO260PB6F24 (io), W5 IO263PB6F24 (io), W6 IO254PB5F23 (io), W7 IO252PB5F23 (io), W8 IO238NB5F22 (io), W9 IO238PB5F22 (io), W10 IO226PB5F21 (io), W11 IO218NB5F20 (io), W12 IO218PB5F20 (io), W13 IO214NB5F20/CLKGN (io), W14 IO212NB4F19/CLKEN (io), W15 IO212PB4F19/CLKEP (io), W16 IO208PB4F19 (io), W17 IO198PB4F18 (io), W18 IO191NB4F17 (io), W19 IO182PB4F17 (io), W20 IO172NB4F16 (io), Y1 IO285PB6F26 (io), Y2 IO273PB6F25 (io), Y3 IO257NB6F24 (io), Y5 IO263NB6F24 (io), Y6 IO254NB5F23 (io), Y7 IO252NB5F23 (io), Y8 IO250PB5F23 (io), Y9 IO242PB5F22 (io), Y10 IO226NB5F21 (io), Y11 IO222PB5F20 (io), Y13 IO214PB5F20/CLKGP (io), Y15 IO202NB4F18 (io), Y16 IO202PB4F18 (io), Y17 IO188NB4F17 (io), Y18 IO176NB4F16 (io), Y19 IO176PB4F16 (io), Y20 IO172PB4F16 (io)
part C pins: A3 VCCIB0 (power), A12 VCCDA (power), A13 PRB (out), A14 VCCDA (power), A23 VCCIB1 (power), AA4 VCCIB6 (power), AA7 VCCDA (power), AA12 VCOMPLG (power), AA13 VCCDA (power), AA14 VCOMPLE (power), AA15 VCCDA (power), AA20 VCCDA (power), AA22 VCCIB3 (power), AB3 VCCIB6 (power), AB5 VCCIB5 (power), AB12 PRC (out), AB13 VCCDA (power), AB20 VCCA (power), AB21 VCCIB4 (power), AB23 VCCIB3 (power), AC1 VCCIB6 (power), AC2 VCCIB6 (power), AC4 VCCIB5 (power), AC11 VCCDA (power), AC22 VCCIB4 (power), AC24 VCCIB3 (power), AC25 VCCIB3 (power), AD3 VCCIB5 (power), AD4 VCCDA (power), AD11 VCCDA (power), AD23 VCCIB4 (power), AE3 VCCIB5 (power), AE12 VCCDA (power), AE13 PRD (out), AE17 VCCDA (power), AE23 VCCIB4 (power), B3 VCCIB0 (power), B15 VCCDA (power), B23 VCCIB1 (power), C1 VCCIB7 (power), C2 VCCIB7 (power), C4 VCCIB0 (power), C5 TDI (in), C6 VCCDA (power), C15 VCCDA (power), C22 VCCIB1 (power), C24 VCCIB2 (power), C25 VCCIB2 (power), D3 VCCIB7 (power), D5 VCCIB0 (power), D6 TMS (in), D13 VCCDA (power), D21 VCCIB1 (power), D23 VCCIB2 (power), E4 VCCIB7 (power), E6 ~{TRST} (in), E12 VCCPLA (power), E13 VCCDA (power), E14 VCCPLC (power), E19 VCCDA (power), E20 VPUMP (power), E22 VCCIB2 (power), F4 VCCA (power), F5 TCK (in), F6 TDO (hiz), F12 VCOMPLA (power), F13 PRA (out), F14 VCOMPLC (power), F21 VCCDA (power), F22 VCCA (power), G5 VCCDA (power), G10 VCCDA (power), H12 VCOMPLB (power), H14 VCCPLD (power), J9 VCCA (power), J10 VCCIB0 (power), J11 VCCIB0 (power), J12 VCCPLB (power), J14 VCOMPLD (power), J15 VCCIB1 (power), J16 VCCIB1 (power), J17 VCCA (power), K9 VCCIB7 (power), K10 VCCA (power), K11 VCCA (power), K12 VCCIB0 (power), K14 VCCIB1 (power), K15 VCCA (power), K16 VCCA (power), K17 VCCIB2 (power), L9 VCCIB7 (power), L10 VCCA (power), L16 VCCA (power), L17 VCCIB2 (power), M10 VCCIB7 (power), M16 VCCIB2 (power), N5 VCCDA (power), N21 VCCDA (power), P10 VCCIB6 (power), P16 VCCIB3 (power), R9 VCCIB6 (power), R10 VCCA (power), R16 VCCA (power), R17 VCCIB3 (power), T9 VCCIB6 (power), T10 VCCA (power), T11 VCCA (power), T12 VCCIB5 (power), T14 VCCIB4 (power), T15 VCCA (power), T16 VCCA (power), T17 VCCIB3 (power), U9 VCCA (power), U10 VCCIB5 (power), U11 VCCIB5 (power), U12 VCCPLH (power), U14 VCCPLF (power), U15 VCCIB4 (power), U16 VCCIB4 (power), U17 VCCA (power), V12 VCOMPLH (power), V14 VCOMPLF (power), W21 VCCDA (power), Y4 VCCA (power), Y12 VCCPLG (power), Y14 VCCPLE (power)
part D pins: A2 GND (power), A8 GND (power), A18 GND (power), A24 GND (power), A25 GND (power), AA5 GND (power), AA10 GND (power), AA16 GND (power), AA18 GND (power), AA21 GND (power), AB4 GND (power), AB22 GND (power), AC3 GND (power), AC10 GND (power), AC16 GND (power), AC23 GND (power), AD1 GND (power), AD2 GND (power), AD24 GND (power), AD25 GND (power), AE1 GND (power), AE2 GND (power), AE8 GND (power), AE18 GND (power), AE24 GND (power), AE25 GND (power), B1 GND (power), B2 GND (power), B24 GND (power), B25 GND (power), C3 GND (power), C10 GND (power), C16 GND (power), C23 GND (power), D4 GND (power), D22 GND (power), E5 GND (power), E8 GND (power), E10 GND (power), E16 GND (power), E21 GND (power), H1 GND (power), H21 GND (power), H25 GND (power), K3 GND (power), K5 GND (power), K21 GND (power), K23 GND (power), L11 GND (power), L12 GND (power), L13 GND (power), L14 GND (power), L15 GND (power), M11 GND (power), M12 GND (power), M13 GND (power), M14 GND (power), M15 GND (power), N11 GND (power), N12 GND (power), N13 GND (power), N14 GND (power), N15 GND (power), P11 GND (power), P12 GND (power), P13 GND (power), P14 GND (power), P15 GND (power), R11 GND (power), R12 GND (power), R13 GND (power), R14 GND (power), R15 GND (power), T3 GND (power), T5 GND (power), T21 GND (power), T23 GND (power), V1 GND (power), V5 GND (power), V25 GND (power)
part A text: Bank 0; Bank 3; Bank 1; Bank 2
part B text: Bank 4; Bank 7; Bank 5; Bank 6

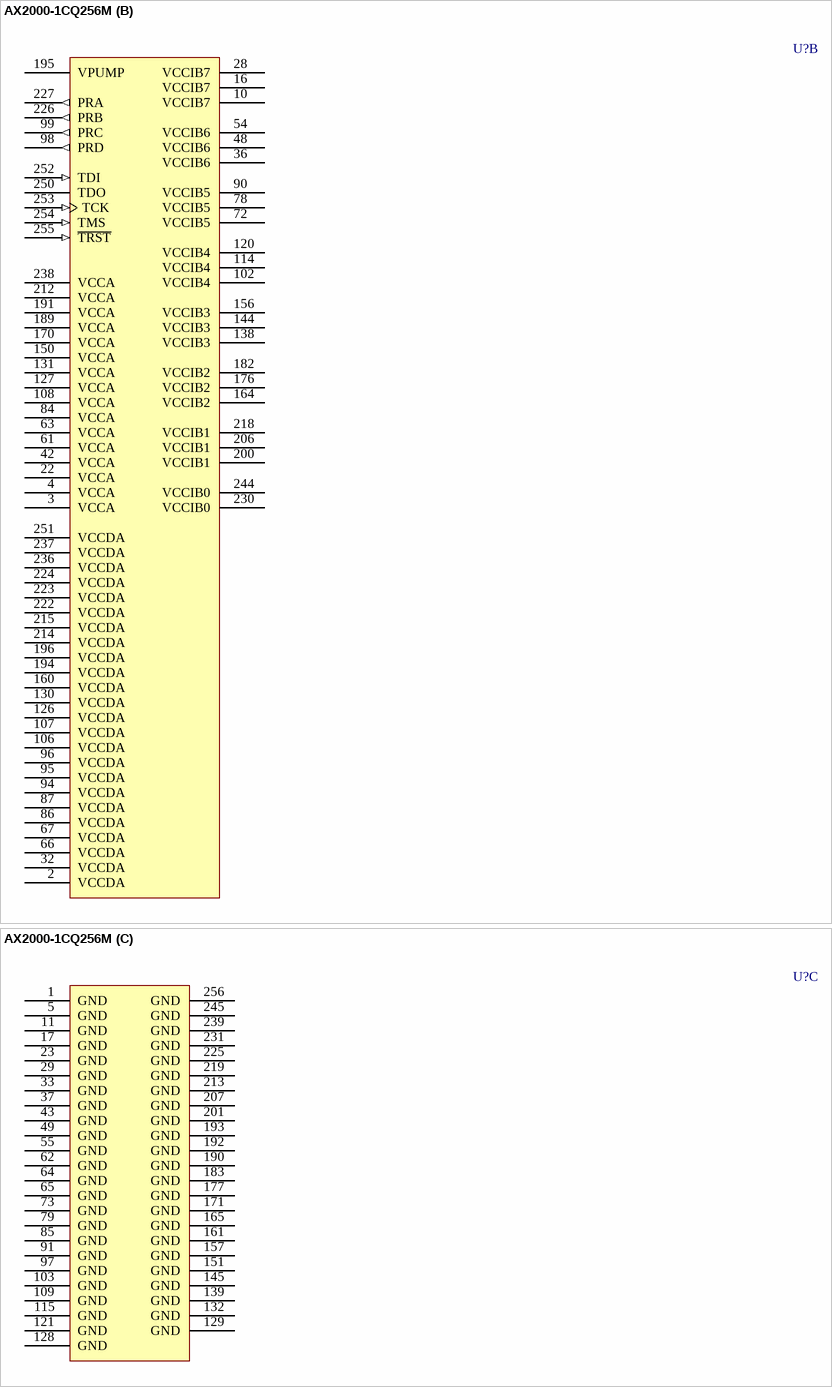
[diagram p364: symbol AX2000-1CQ256M]

## AX2000-1CQ256M
designator U?
Axcelerator AX2000 FPGA, 136 User I/Os, 256-Pin CQFP, Speed Grade 1, Military Grade; Published: 11-Dec-2009; DatasheetVersion: v2.8, Oct-2009; PackageVersion: ver11.2, Nov-2009; PackageReference: CQ256; Publisher: Altium Limited; PackageDescription: 256-Pin Ceramic Quad Flat Pack (CQFP); Code_JEDEC: MO-134-AB; ComponentLink1Description: Axcelerator Datasheet; ComponentLink1URL: http://www.actel.com/documents/AX_DS.pdf; ComponentLink2Description: Package Mechanical Drawings; ComponentLink2URL: http://www.actel.com/documents/PckgMechDrwngs.pdf; ComponentLink3Description: Axcelerator Documents; ComponentLink3URL: http://www.actel.com/products/axcelerator/docs.aspx; ComponentLink4Description: Actel.com Home; ComponentLink4URL: http://www.actel.com/
footprint CQ256_N (CQFP, 256-Leads, Body 36x36mm; Pitch 0.5mm, Gullwing Leadform, IPC Medium Density)
footprint CQ256_L (CQFP, 256-Leads, Body 36x36mm; Pitch 0.5mm, Gullwing Leadform, IPC High Density)
footprint CQ256_M (CQFP, 256-Leads, Body 36x36mm; Pitch 0.5mm, Gullwing Leadform, IPC Low Density)
part A pins: 6 IO341NB7F31 (io), 7 IO341PB7F31 (io), 8 IO320NB7F29 (io), 9 IO320PB7F29 (io), 12 IO318NB7F29 (io), 13 IO318PB7F29 (io), 14 IO317NB7F29 (io), 15 IO317PB7F29 (io), 18 IO316NB7F29 (io), 19 IO316PB7F29 (io), 20 IO315NB7F29 (io), 21 IO315PB7F29 (io), 24 IO312NB7F29 (io), 25 IO312PB7F29 (io), 26 IO311NB7F29 (io), 27 IO311PB7F29 (io), 30 IO310NB7F29 (io), 31 IO310PB7F29 (io), 34 IO287NB6F26 (io), 35 IO287PB6F26 (io), 38 IO286NB6F26 (io), 39 IO286PB6F26 (io), 40 IO285NB6F26 (io), 41 IO285PB6F26 (io), 44 IO284NB6F26 (io), 45 IO284PB6F26 (io), 46 IO282NB6F26 (io), 47 IO282PB6F26 (io), 50 IO281NB6F26 (io), 51 IO281PB6F26 (io), 52 IO280NB6F26 (io), 53 IO280PB6F26 (io), 56 IO279NB6F26 (io), 57 IO279PB6F26 (io), 58 IO258NB6F24 (io), 59 IO258PB6F24 (io), 60 IO257PB6F24 (io), 68 IO244NB5F22 (io), 69 IO244PB5F22 (io), 70 IO243NB5F22 (io), 71 IO243PB5F22 (io), 74 IO242NB5F22 (io), 75 IO242PB5F22 (io), 76 IO240NB5F22 (io), 77 IO240PB5F22 (io), 80 IO238NB5F22 (io), 81 IO238PB5F22 (io), 82 IO236NB5F22 (io), 83 IO236PB5F22 (io), 88 IO215NB5F20/CLKHN (io), 89 IO215PB5F20/CLKHP (io), 92 IO214NB5F20/CLKGN (io), 93 IO214PB5F20/CLKGP (io), 100 IO213NB4F19/CLKFN (io), 101 IO213PB4F19/CLKFP (io), 104 IO212NB4F19/CLKEN (io), 105 IO212PB4F19/CLKEP (io), 110 IO192NB4F17 (io), 111 IO192PB4F17 (io), 112 IO190NB4F17 (io), 113 IO190PB4F17 (io), 116 IO184NB4F17 (io), 117 IO184PB4F17 (io), 118 IO183NB4F17 (io), 119 IO183PB4F17 (io), 122 IO182NB4F17 (io), 123 IO182PB4F17 (io), 124 IO181NB4F17 (io), 125 IO181PB4F17 (io), 133 IO167NB3F15 (io), 134 IO167PB3F15 (io), 135 IO165NB3F15 (io), 136 IO149NB3F13 (io), 137 IO149PB3F13 (io), 140 IO147NB3F13 (io), 141 IO147PB3F13 (io), 142 IO148NB3F13 (io), 143 IO148PB3F13 (io), 146 IO146NB3F13 (io), 147 IO146PB3F13 (io), 148 IO145NB3F13 (io), 149 IO145PB3F13 (io), 152 IO142NB3F13 (io), 153 IO142PB3F13 (io), 154 IO141NB3F13 (io), 155 IO141PB3F13 (io), 158 IO139NB3F13 (io), 159 IO139PB3F13 (io), 162 IO117NB2F10 (io), 163 IO117PB2F10 (io), 166 IO115NB2F10 (io), 167 IO115PB2F10 (io), 168 IO114NB2F10 (io), 169 IO114PB2F10 (io), 172 IO113NB2F10 (io), 173 IO113PB2F10 (io), 174 IO112NB2F10 (io), 175 IO112PB2F10 (io), 178 IO111NB2F10 (io), 179 IO111PB2F10 (io), 180 IO110NB2F10 (io), 181 IO110PB2F10 (io), 184 IO107NB2F10 (io), 185 IO107PB2F10 (io), 186 IO89PB2F8 (io), 187 IO87NB2F8 (io), 188 IO87PB2F8 (io), 197 IO74NB1F6 (io), 198 IO74PB1F6 (io), 199 IO70NB1F6 (io), 202 IO73NB1F6 (io), 203 IO73PB1F6 (io), 204 IO71NB1F6 (io), 205 IO71PB1F6 (io), 208 IO69NB1F6 (io), 209 IO69PB1F6 (io), 210 IO65NB1F6 (io), 211 IO65PB1F6 (io), 216 IO44NB1F4/HCLKDN (io), 217 IO44PB1F4/HCLKDP (io), 220 IO43NB1F4/HCLKCN (io), 221 IO43PB1F4/HCLKCP (io), 228 IO42NB0F3/HCLKBN (io), 229 IO42PB0F3/HCLKBP (io), 232 IO41NB0F3/HCLKAN (io), 233 IO41PB0F3/HCLKAP (io), 234 IO37NB0F3 (io), 235 IO37PB0F3 (io), 240 IO08NB0F0 (io), 241 IO08PB0F0 (io), 242 IO05NB0F0 (io), 243 IO05PB0F0 (io), 246 IO04NB0F0 (io), 247 IO04PB0F0 (io), 248 IO01NB0F0 (io), 249 IO01PB0F0 (io)
part B pins: 2 VCCDA (power), 3 VCCA (power), 4 VCCA (power), 10 VCCIB7 (power), 16 VCCIB7 (power), 22 VCCA (power), 28 VCCIB7 (power), 32 VCCDA (power), 36 VCCIB6 (power), 42 VCCA (power), 48 VCCIB6 (power), 54 VCCIB6 (power), 61 VCCA (power), 63 VCCA (power), 66 VCCDA (power), 67 VCCDA (power), 72 VCCIB5 (power), 78 VCCIB5 (power), 84 VCCA (power), 86 VCCDA (power), 87 VCCDA (power), 90 VCCIB5 (power), 94 VCCDA (power), 95 VCCDA (power), 96 VCCDA (power), 98 PRD (out), 99 PRC (out), 102 VCCIB4 (power), 106 VCCDA (power), 107 VCCDA (power), 108 VCCA (power), 114 VCCIB4 (power), 120 VCCIB4 (power), 126 VCCDA (power), 127 VCCA (power), 130 VCCDA (power), 131 VCCA (power), 138 VCCIB3 (power), 144 VCCIB3 (power), 150 VCCA (power), 156 VCCIB3 (power), 160 VCCDA (power), 164 VCCIB2 (power), 170 VCCA (power), 176 VCCIB2 (power), 182 VCCIB2 (power), 189 VCCA (power), 191 VCCA (power), 194 VCCDA (power), 195 VPUMP (power), 196 VCCDA (power), 200 VCCIB1 (power), 206 VCCIB1 (power), 212 VCCA (power), 214 VCCDA (power), 215 VCCDA (power), 218 VCCIB1 (power), 222 VCCDA (power), 223 VCCDA (power), 224 VCCDA (power), 226 PRB (out), 227 PRA (out), 230 VCCIB0 (power), 236 VCCDA (power), 237 VCCDA (power), 238 VCCA (power), 244 VCCIB0 (power), 250 TDO (hiz), 251 VCCDA (power), 252 TDI (in), 253 TCK (in), 254 TMS (in), 255 ~{TRST} (in)
part C pins: 1 GND (power), 5 GND (power), 11 GND (power), 17 GND (power), 23 GND (power), 29 GND (power), 33 GND (power), 37 GND (power), 43 GND (power), 49 GND (power), 55 GND (power), 62 GND (power), 64 GND (power), 65 GND (power), 73 GND (power), 79 GND (power), 85 GND (power), 91 GND (power), 97 GND (power), 103 GND (power), 109 GND (power), 115 GND (power), 121 GND (power), 128 GND (power), 129 GND (power), 132 GND (power), 139 GND (power), 145 GND (power), 151 GND (power), 157 GND (power), 161 GND (power), 165 GND (power), 171 GND (power), 177 GND (power), 183 GND (power), 190 GND (power), 192 GND (power), 193 GND (power), 201 GND (power), 207 GND (power), 213 GND (power), 219 GND (power), 225 GND (power), 231 GND (power), 239 GND (power), 245 GND (power), 256 GND (power)
part A text: Bank 0; Bank 1; Bank 7; Bank 2; Bank 6; Bank 3; Bank 5; Bank 4

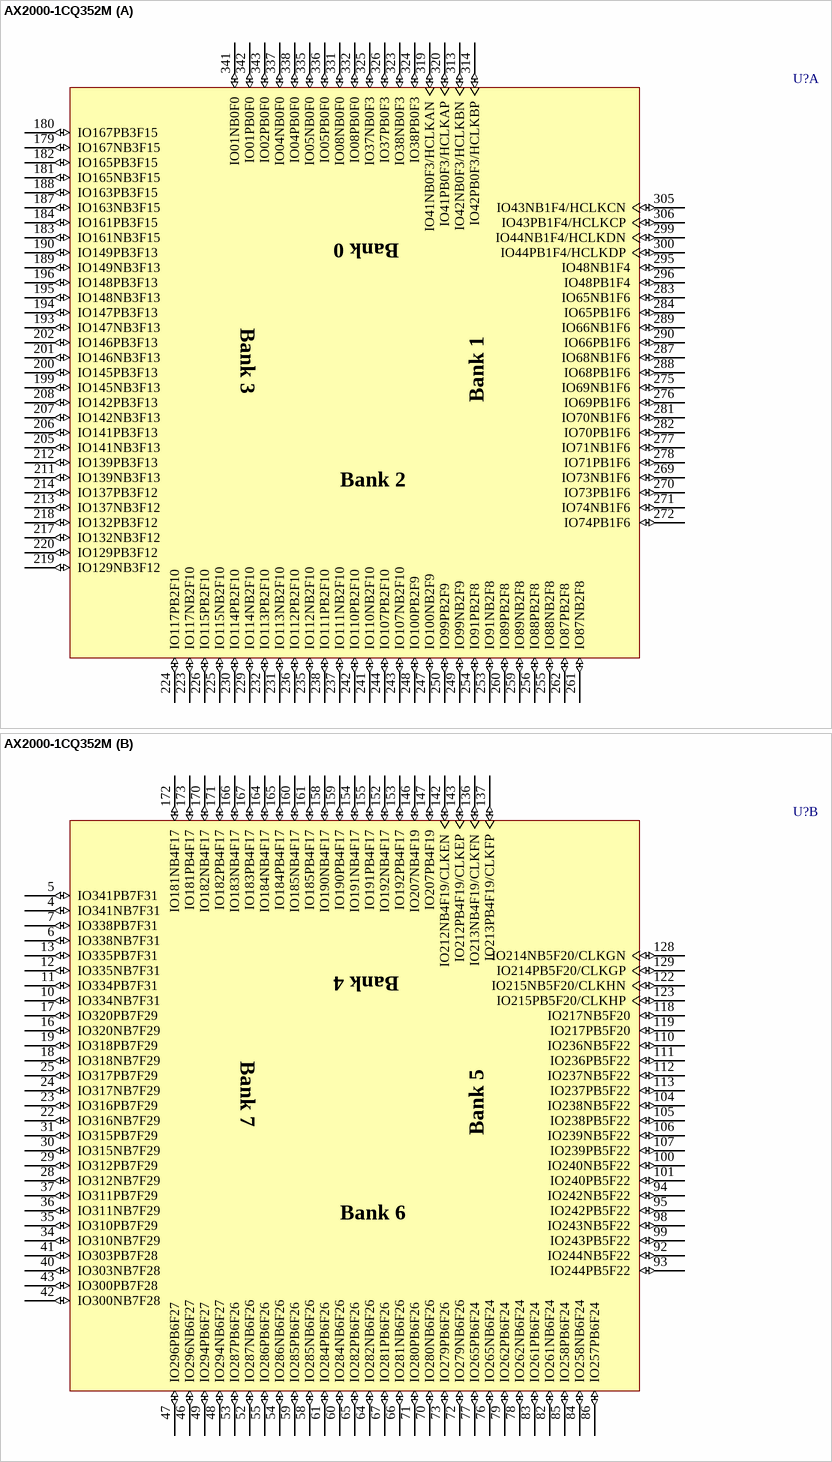
[diagram p365: symbol AX2000-1CQ352M]

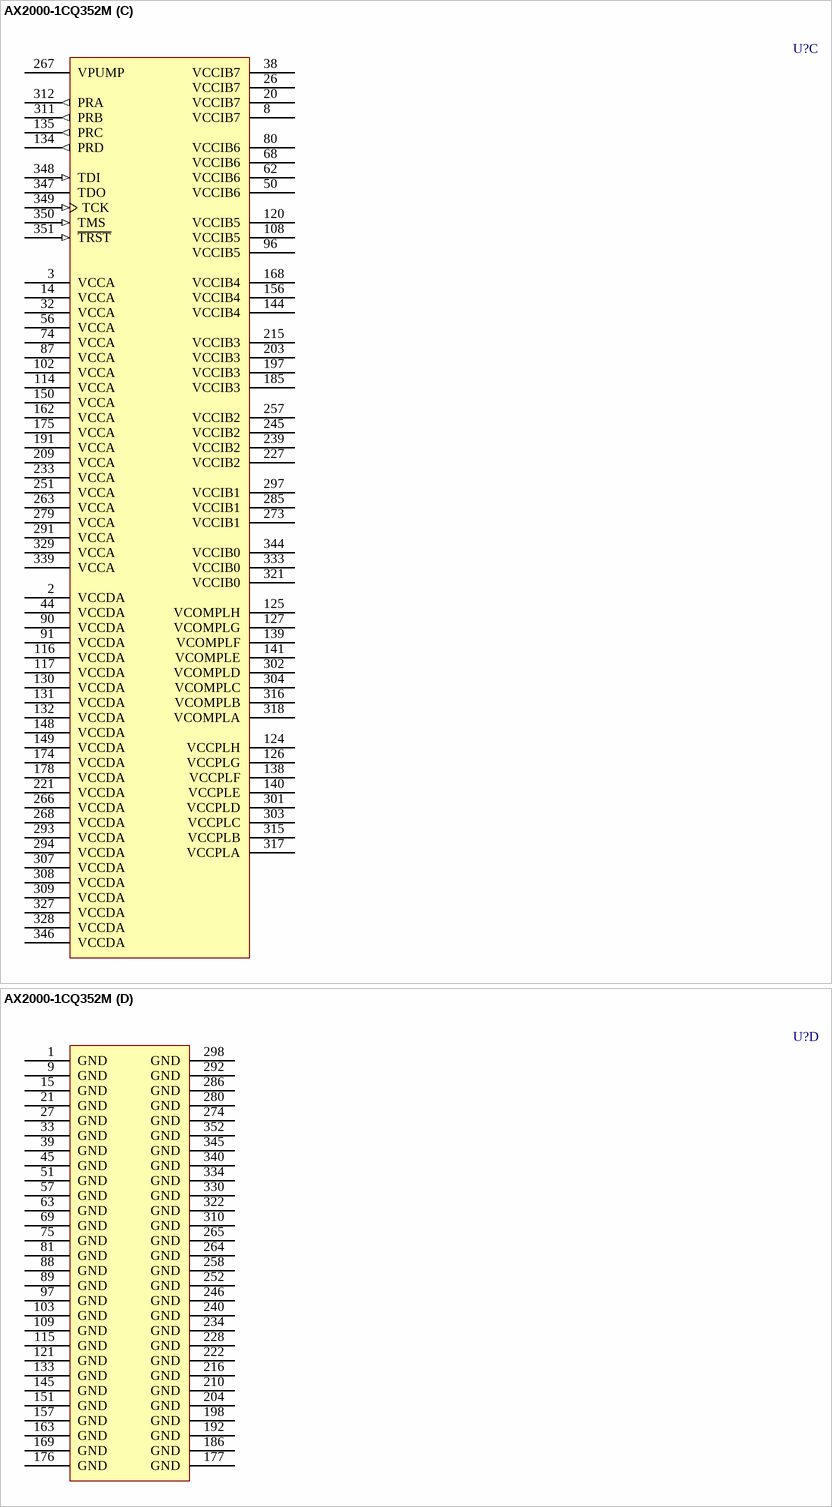
[diagram p366: symbol AX2000-1CQ352M]

## AX2000-1CQ352M
designator U?
Axcelerator AX2000 FPGA, 198 User I/Os, 352-Pin CQFP, Speed Grade 1, Military Grade; Published: 11-Dec-2009; DatasheetVersion: v2.8, Oct-2009; PackageVersion: ver11.2, Nov-2009; PackageReference: CQ352; Publisher: Altium Limited; PackageDescription: 352-Pin Ceramic Quad Flat Pack (CQFP), Cavity Up without Heat Sink; Code_JEDEC: MO-134-AE; ComponentLink1Description: Axcelerator Datasheet; ComponentLink1URL: http://www.actel.com/documents/AX_DS.pdf; ComponentLink2Description: Package Mechanical Drawings; ComponentLink2URL: http://www.actel.com/documents/PckgMechDrwngs.pdf; ComponentLink3Description: Axcelerator Documents; ComponentLink3URL: http://www.actel.com/products/axcelerator/docs.aspx; ComponentLink4Description: Actel.com Home; ComponentLink4URL: http://www.actel.com/
footprint CQ352_N (CQFP, 352-Leads, Body 48x48mm; Pitch 0.5mm, Gullwing Leadform, IPC Medium Density)
footprint CQ352_L (CQFP, 352-Leads, Body 48x48mm; Pitch 0.5mm, Gullwing Leadform, IPC High Density)
footprint CQ352_M (CQFP, 352-Leads, Body 48x48mm; Pitch 0.5mm, Gullwing Leadform, IPC Low Density)
part A pins: 179 IO167NB3F15 (io), 180 IO167PB3F15 (io), 181 IO165NB3F15 (io), 182 IO165PB3F15 (io), 183 IO161NB3F15 (io), 184 IO161PB3F15 (io), 187 IO163NB3F15 (io), 188 IO163PB3F15 (io), 189 IO149NB3F13 (io), 190 IO149PB3F13 (io), 193 IO147NB3F13 (io), 194 IO147PB3F13 (io), 195 IO148NB3F13 (io), 196 IO148PB3F13 (io), 199 IO145NB3F13 (io), 200 IO145PB3F13 (io), 201 IO146NB3F13 (io), 202 IO146PB3F13 (io), 205 IO141NB3F13 (io), 206 IO141PB3F13 (io), 207 IO142NB3F13 (io), 208 IO142PB3F13 (io), 211 IO139NB3F13 (io), 212 IO139PB3F13 (io), 213 IO137NB3F12 (io), 214 IO137PB3F12 (io), 217 IO132NB3F12 (io), 218 IO132PB3F12 (io), 219 IO129NB3F12 (io), 220 IO129PB3F12 (io), 223 IO117NB2F10 (io), 224 IO117PB2F10 (io), 225 IO115NB2F10 (io), 226 IO115PB2F10 (io), 229 IO114NB2F10 (io), 230 IO114PB2F10 (io), 231 IO113NB2F10 (io), 232 IO113PB2F10 (io), 235 IO112NB2F10 (io), 236 IO112PB2F10 (io), 237 IO111NB2F10 (io), 238 IO111PB2F10 (io), 241 IO110NB2F10 (io), 242 IO110PB2F10 (io), 243 IO107NB2F10 (io), 244 IO107PB2F10 (io), 247 IO100NB2F9 (io), 248 IO100PB2F9 (io), 249 IO99NB2F9 (io), 250 IO99PB2F9 (io), 253 IO91NB2F8 (io), 254 IO91PB2F8 (io), 255 IO88NB2F8 (io), 256 IO88PB2F8 (io), 259 IO89NB2F8 (io), 260 IO89PB2F8 (io), 261 IO87NB2F8 (io), 262 IO87PB2F8 (io), 269 IO73NB1F6 (io), 270 IO73PB1F6 (io), 271 IO74NB1F6 (io), 272 IO74PB1F6 (io), 275 IO69NB1F6 (io), 276 IO69PB1F6 (io), 277 IO71NB1F6 (io), 278 IO71PB1F6 (io), 281 IO70NB1F6 (io), 282 IO70PB1F6 (io), 283 IO65NB1F6 (io), 284 IO65PB1F6 (io), 287 IO68NB1F6 (io), 288 IO68PB1F6 (io), 289 IO66NB1F6 (io), 290 IO66PB1F6 (io), 295 IO48NB1F4 (io), 296 IO48PB1F4 (io), 299 IO44NB1F4/HCLKDN (io), 300 IO44PB1F4/HCLKDP (io), 305 IO43NB1F4/HCLKCN (io), 306 IO43PB1F4/HCLKCP (io), 313 IO42NB0F3/HCLKBN (io), 314 IO42PB0F3/HCLKBP (io), 319 IO41NB0F3/HCLKAN (io), 320 IO41PB0F3/HCLKAP (io), 323 IO38NB0F3 (io), 324 IO38PB0F3 (io), 325 IO37NB0F3 (io), 326 IO37PB0F3 (io), 331 IO08NB0F0 (io), 332 IO08PB0F0 (io), 335 IO05NB0F0 (io), 336 IO05PB0F0 (io), 337 IO04NB0F0 (io), 338 IO04PB0F0 (io), 341 IO01NB0F0 (io), 342 IO01PB0F0 (io), 343 IO02PB0F0 (io)
part B pins: 4 IO341NB7F31 (io), 5 IO341PB7F31 (io), 6 IO338NB7F31 (io), 7 IO338PB7F31 (io), 10 IO334NB7F31 (io), 11 IO334PB7F31 (io), 12 IO335NB7F31 (io), 13 IO335PB7F31 (io), 16 IO320NB7F29 (io), 17 IO320PB7F29 (io), 18 IO318NB7F29 (io), 19 IO318PB7F29 (io), 22 IO316NB7F29 (io), 23 IO316PB7F29 (io), 24 IO317NB7F29 (io), 25 IO317PB7F29 (io), 28 IO312NB7F29 (io), 29 IO312PB7F29 (io), 30 IO315NB7F29 (io), 31 IO315PB7F29 (io), 34 IO310NB7F29 (io), 35 IO310PB7F29 (io), 36 IO311NB7F29 (io), 37 IO311PB7F29 (io), 40 IO303NB7F28 (io), 41 IO303PB7F28 (io), 42 IO300NB7F28 (io), 43 IO300PB7F28 (io), 46 IO296NB6F27 (io), 47 IO296PB6F27 (io), 48 IO294NB6F27 (io), 49 IO294PB6F27 (io), 52 IO287NB6F26 (io), 53 IO287PB6F26 (io), 54 IO286NB6F26 (io), 55 IO286PB6F26 (io), 58 IO285NB6F26 (io), 59 IO285PB6F26 (io), 60 IO284NB6F26 (io), 61 IO284PB6F26 (io), 64 IO282NB6F26 (io), 65 IO282PB6F26 (io), 66 IO281NB6F26 (io), 67 IO281PB6F26 (io), 70 IO280NB6F26 (io), 71 IO280PB6F26 (io), 72 IO279NB6F26 (io), 73 IO279PB6F26 (io), 76 IO265NB6F24 (io), 77 IO265PB6F24 (io), 78 IO262NB6F24 (io), 79 IO262PB6F24 (io), 82 IO261NB6F24 (io), 83 IO261PB6F24 (io), 84 IO258NB6F24 (io), 85 IO258PB6F24 (io), 86 IO257PB6F24 (io), 92 IO244NB5F22 (io), 93 IO244PB5F22 (io), 94 IO242NB5F22 (io), 95 IO242PB5F22 (io), 98 IO243NB5F22 (io), 99 IO243PB5F22 (io), 100 IO240NB5F22 (io), 101 IO240PB5F22 (io), 104 IO238NB5F22 (io), 105 IO238PB5F22 (io), 106 IO239NB5F22 (io), 107 IO239PB5F22 (io), 110 IO236NB5F22 (io), 111 IO236PB5F22 (io), 112 IO237NB5F22 (io), 113 IO237PB5F22 (io), 118 IO217NB5F20 (io), 119 IO217PB5F20 (io), 122 IO215NB5F20/CLKHN (io), 123 IO215PB5F20/CLKHP (io), 128 IO214NB5F20/CLKGN (io), 129 IO214PB5F20/CLKGP (io), 136 IO213NB4F19/CLKFN (io), 137 IO213PB4F19/CLKFP (io), 142 IO212NB4F19/CLKEN (io), 143 IO212PB4F19/CLKEP (io), 146 IO207NB4F19 (io), 147 IO207PB4F19 (io), 152 IO192NB4F17 (io), 153 IO192PB4F17 (io), 154 IO191NB4F17 (io), 155 IO191PB4F17 (io), 158 IO190NB4F17 (io), 159 IO190PB4F17 (io), 160 IO185NB4F17 (io), 161 IO185PB4F17 (io), 164 IO184NB4F17 (io), 165 IO184PB4F17 (io), 166 IO183NB4F17 (io), 167 IO183PB4F17 (io), 170 IO182NB4F17 (io), 171 IO182PB4F17 (io), 172 IO181NB4F17 (io), 173 IO181PB4F17 (io)
part C pins: 2 VCCDA (power), 3 VCCA (power), 8 VCCIB7 (power), 14 VCCA (power), 20 VCCIB7 (power), 26 VCCIB7 (power), 32 VCCA (power), 38 VCCIB7 (power), 44 VCCDA (power), 50 VCCIB6 (power), 56 VCCA (power), 62 VCCIB6 (power), 68 VCCIB6 (power), 74 VCCA (power), 80 VCCIB6 (power), 87 VCCA (power), 90 VCCDA (power), 91 VCCDA (power), 96 VCCIB5 (power), 102 VCCA (power), 108 VCCIB5 (power), 114 VCCA (power), 116 VCCDA (power), 117 VCCDA (power), 120 VCCIB5 (power), 124 VCCPLH (power), 125 VCOMPLH (power), 126 VCCPLG (power), 127 VCOMPLG (power), 130 VCCDA (power), 131 VCCDA (power), 132 VCCDA (power), 134 PRD (out), 135 PRC (out), 138 VCCPLF (power), 139 VCOMPLF (power), 140 VCCPLE (power), 141 VCOMPLE (power), 144 VCCIB4 (power), 148 VCCDA (power), 149 VCCDA (power), 150 VCCA (power), 156 VCCIB4 (power), 162 VCCA (power), 168 VCCIB4 (power), 174 VCCDA (power), 175 VCCA (power), 178 VCCDA (power), 185 VCCIB3 (power), 191 VCCA (power), 197 VCCIB3 (power), 203 VCCIB3 (power), 209 VCCA (power), 215 VCCIB3 (power), 221 VCCDA (power), 227 VCCIB2 (power), 233 VCCA (power), 239 VCCIB2 (power), 245 VCCIB2 (power), 251 VCCA (power), 257 VCCIB2 (power), 263 VCCA (power), 266 VCCDA (power), 267 VPUMP (power), 268 VCCDA (power), 273 VCCIB1 (power), 279 VCCA (power), 285 VCCIB1 (power), 291 VCCA (power), 293 VCCDA (power), 294 VCCDA (power), 297 VCCIB1 (power), 301 VCCPLD (power), 302 VCOMPLD (power), 303 VCCPLC (power), 304 VCOMPLC (power), 307 VCCDA (power), 308 VCCDA (power), 309 VCCDA (power), 311 PRB (out), 312 PRA (out), 315 VCCPLB (power), 316 VCOMPLB (power), 317 VCCPLA (power), 318 VCOMPLA (power), 321 VCCIB0 (power), 327 VCCDA (power), 328 VCCDA (power), 329 VCCA (power), 333 VCCIB0 (power), 339 VCCA (power), 344 VCCIB0 (power), 346 VCCDA (power), 347 TDO (hiz), 348 TDI (in), 349 TCK (in), 350 TMS (in), 351 ~{TRST} (in)
part D pins: 1 GND (power), 9 GND (power), 15 GND (power), 21 GND (power), 27 GND (power), 33 GND (power), 39 GND (power), 45 GND (power), 51 GND (power), 57 GND (power), 63 GND (power), 69 GND (power), 75 GND (power), 81 GND (power), 88 GND (power), 89 GND (power), 97 GND (power), 103 GND (power), 109 GND (power), 115 GND (power), 121 GND (power), 133 GND (power), 145 GND (power), 151 GND (power), 157 GND (power), 163 GND (power), 169 GND (power), 176 GND (power), 177 GND (power), 186 GND (power), 192 GND (power), 198 GND (power), 204 GND (power), 210 GND (power), 216 GND (power), 222 GND (power), 228 GND (power), 234 GND (power), 240 GND (power), 246 GND (power), 252 GND (power), 258 GND (power), 264 GND (power), 265 GND (power), 274 GND (power), 280 GND (power), 286 GND (power), 292 GND (power), 298 GND (power), 310 GND (power), 322 GND (power), 330 GND (power), 334 GND (power), 340 GND (power), 345 GND (power), 352 GND (power)
part A text: Bank 0; Bank 3; Bank 1; Bank 2
part B text: Bank 4; Bank 7; Bank 5; Bank 6

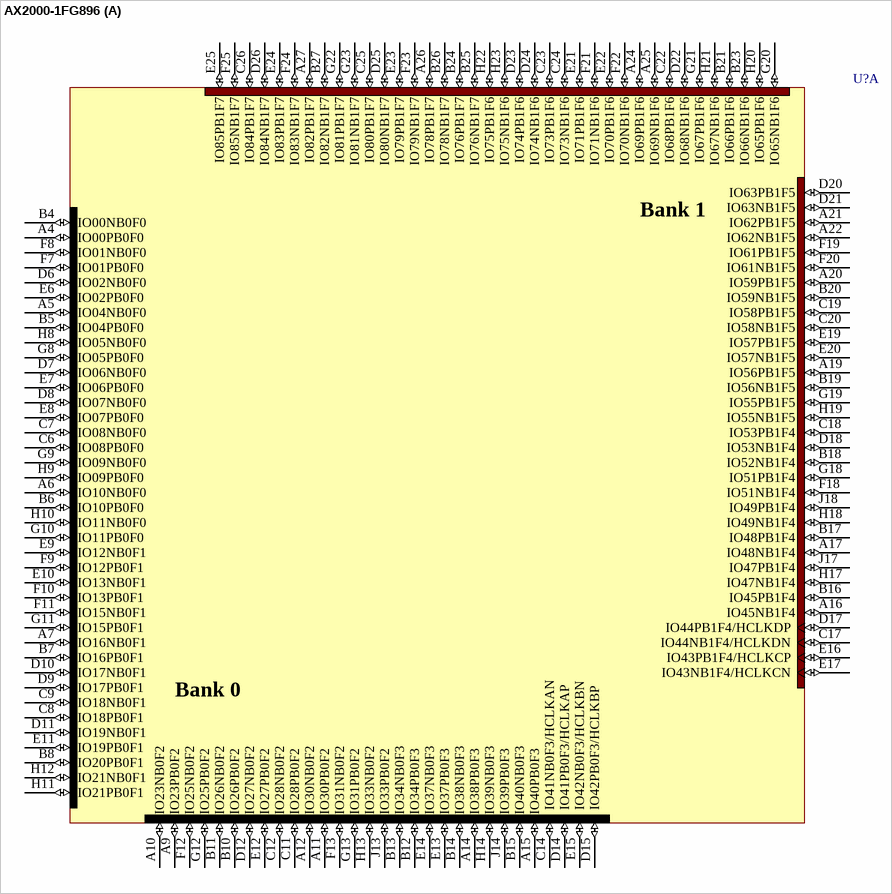
[diagram p367: symbol AX2000-1FG896]

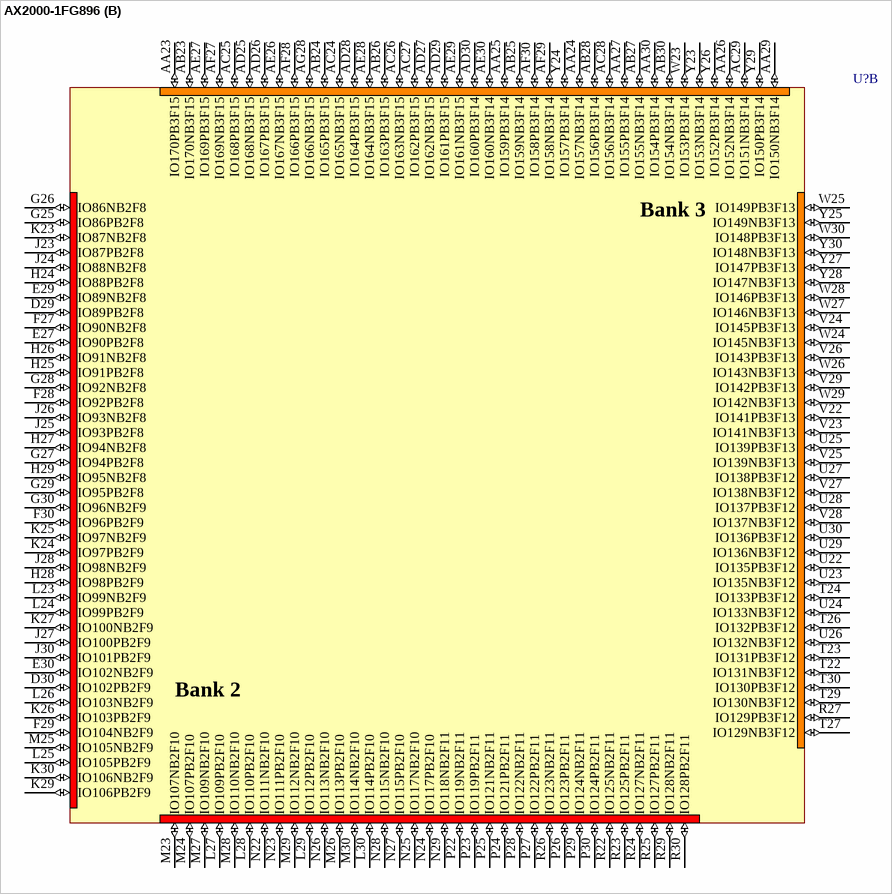
[diagram p368: symbol AX2000-1FG896]

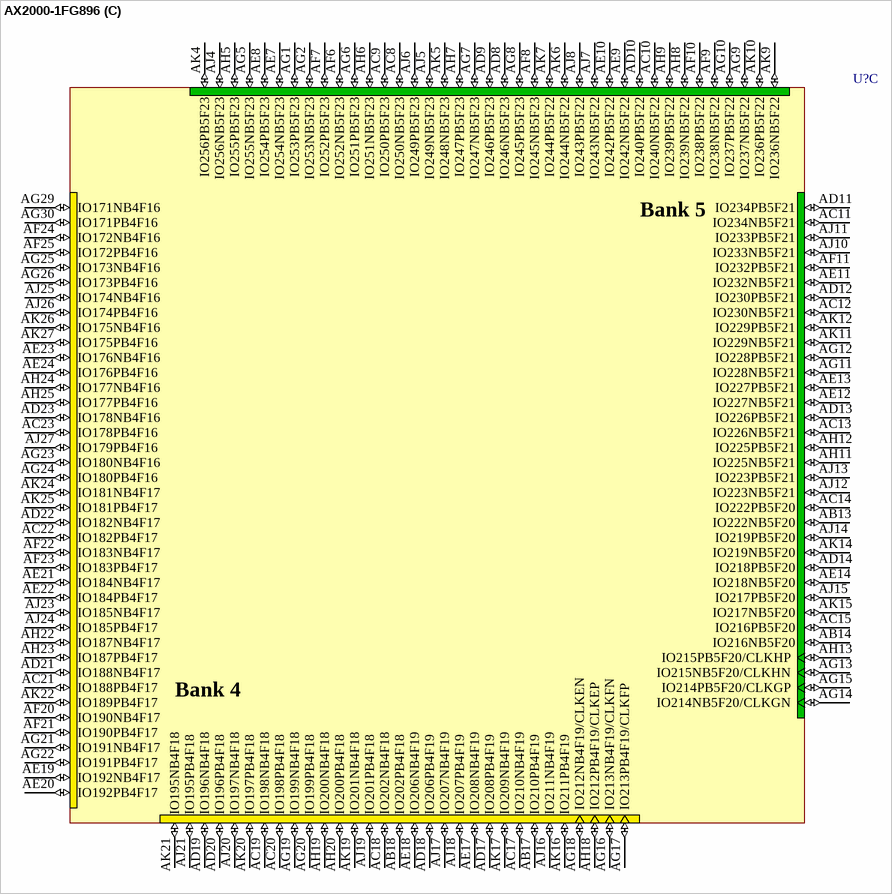
[diagram p369: symbol AX2000-1FG896]

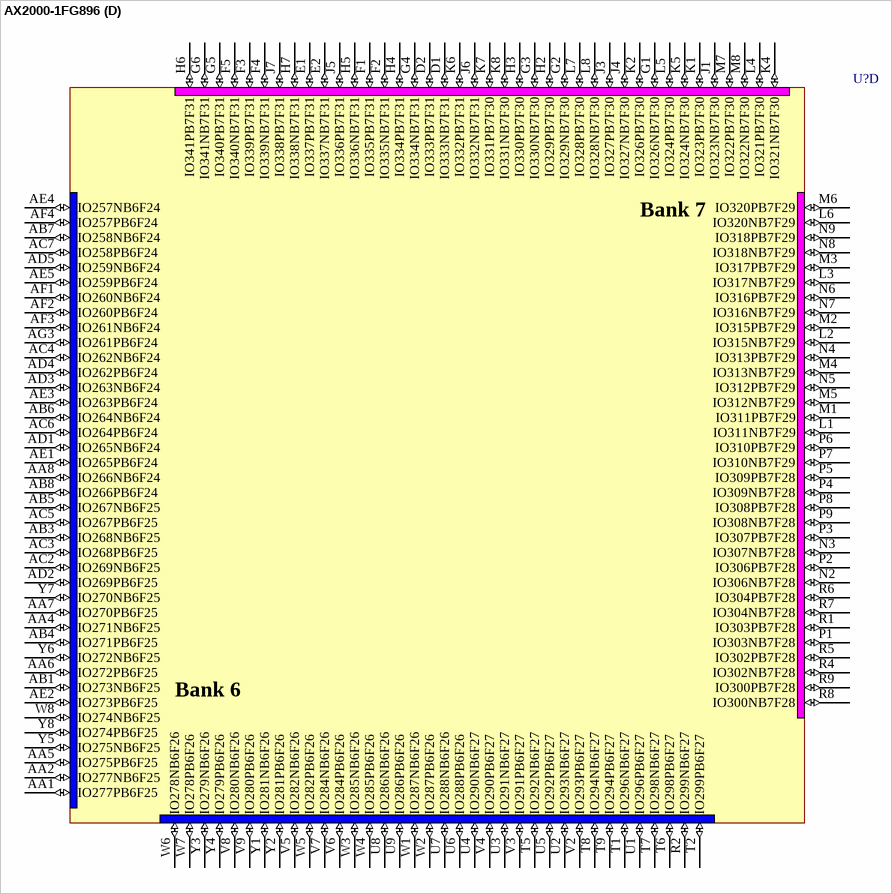
[diagram p370: symbol AX2000-1FG896]

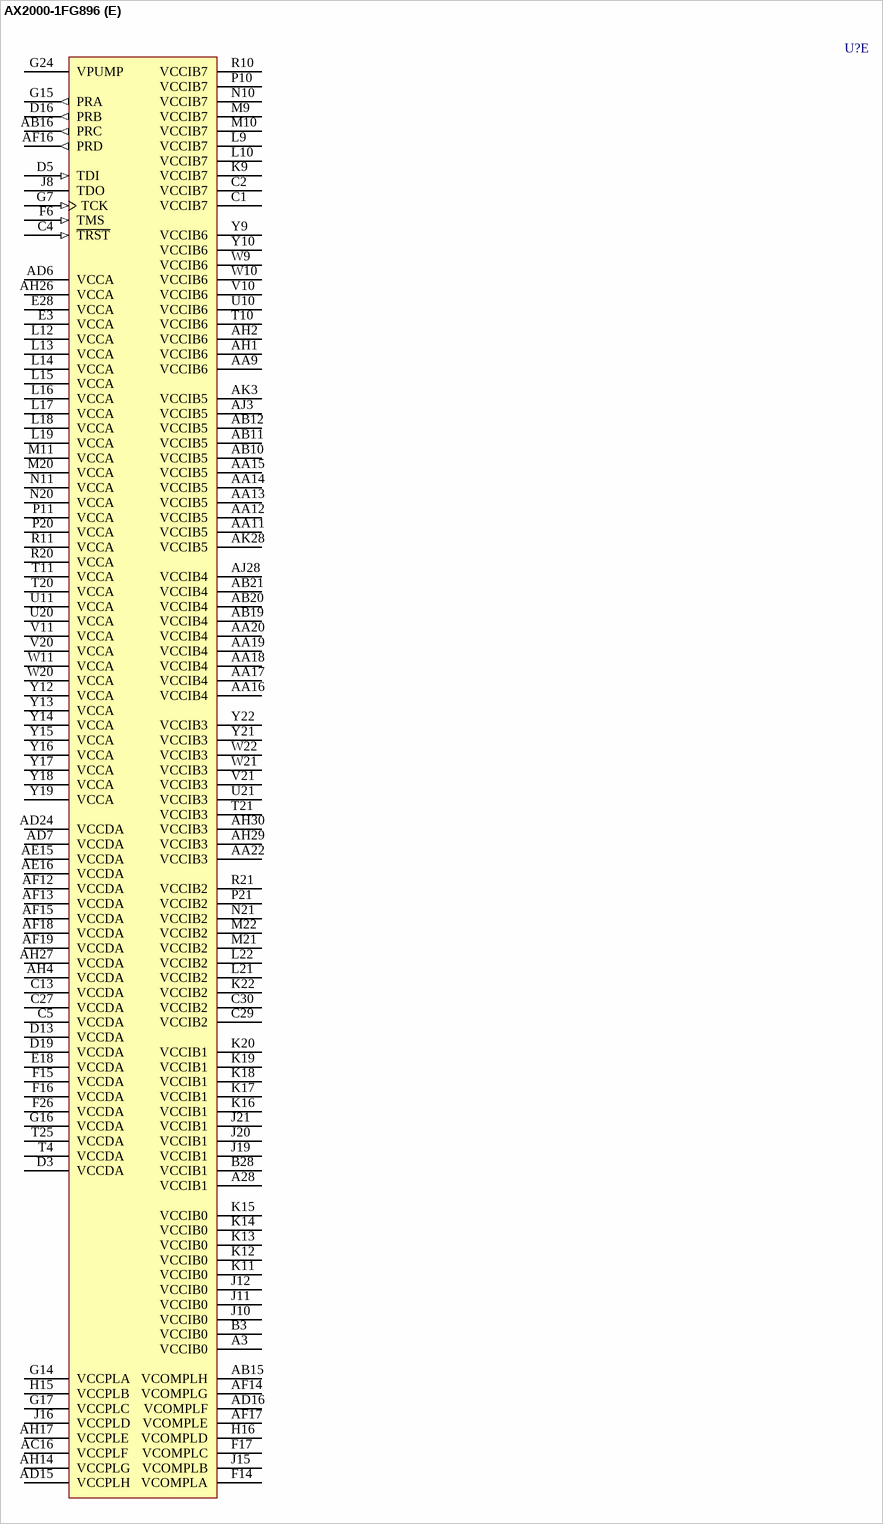
[diagram p371: symbol AX2000-1FG896]

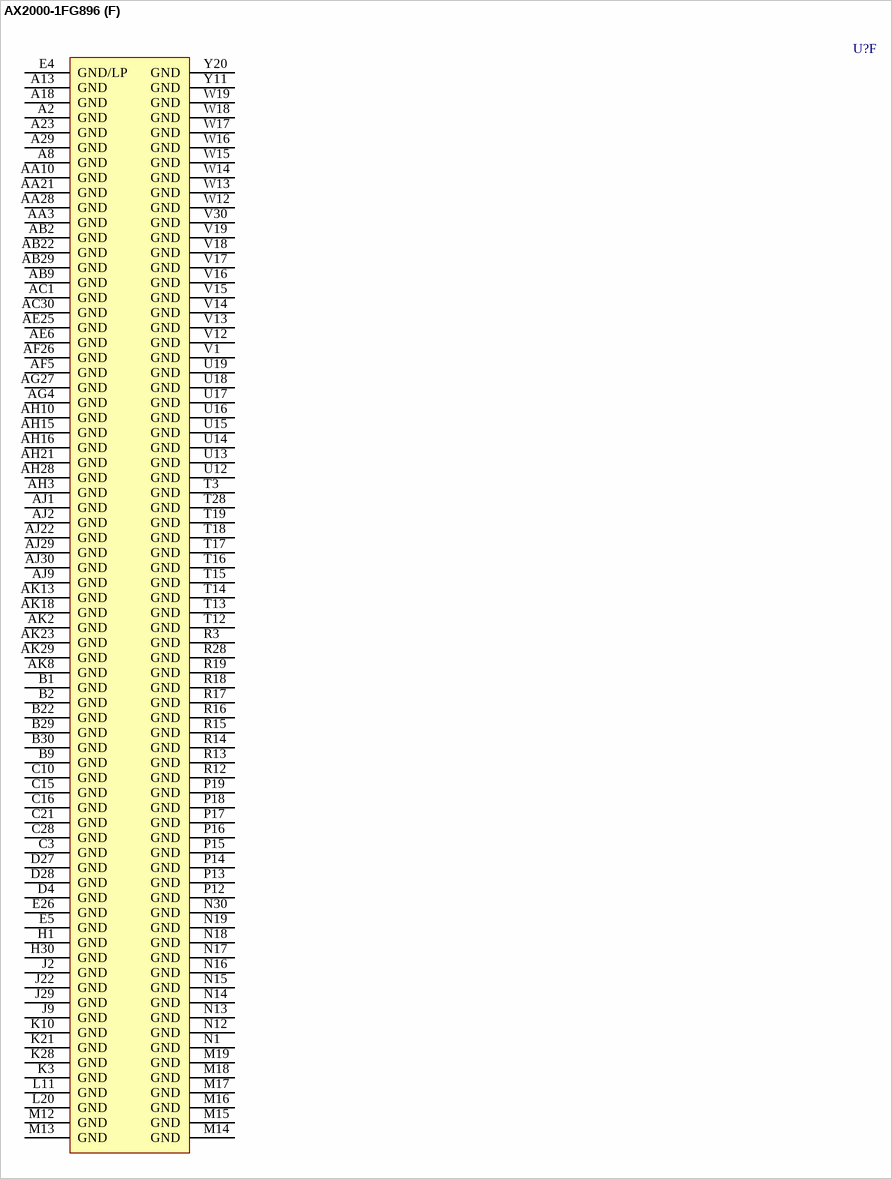
[diagram p372: symbol AX2000-1FG896]